# Altium schematic symbol library UWRT Schematic Library.SchLib: 510 symbols (part 3 of 5)
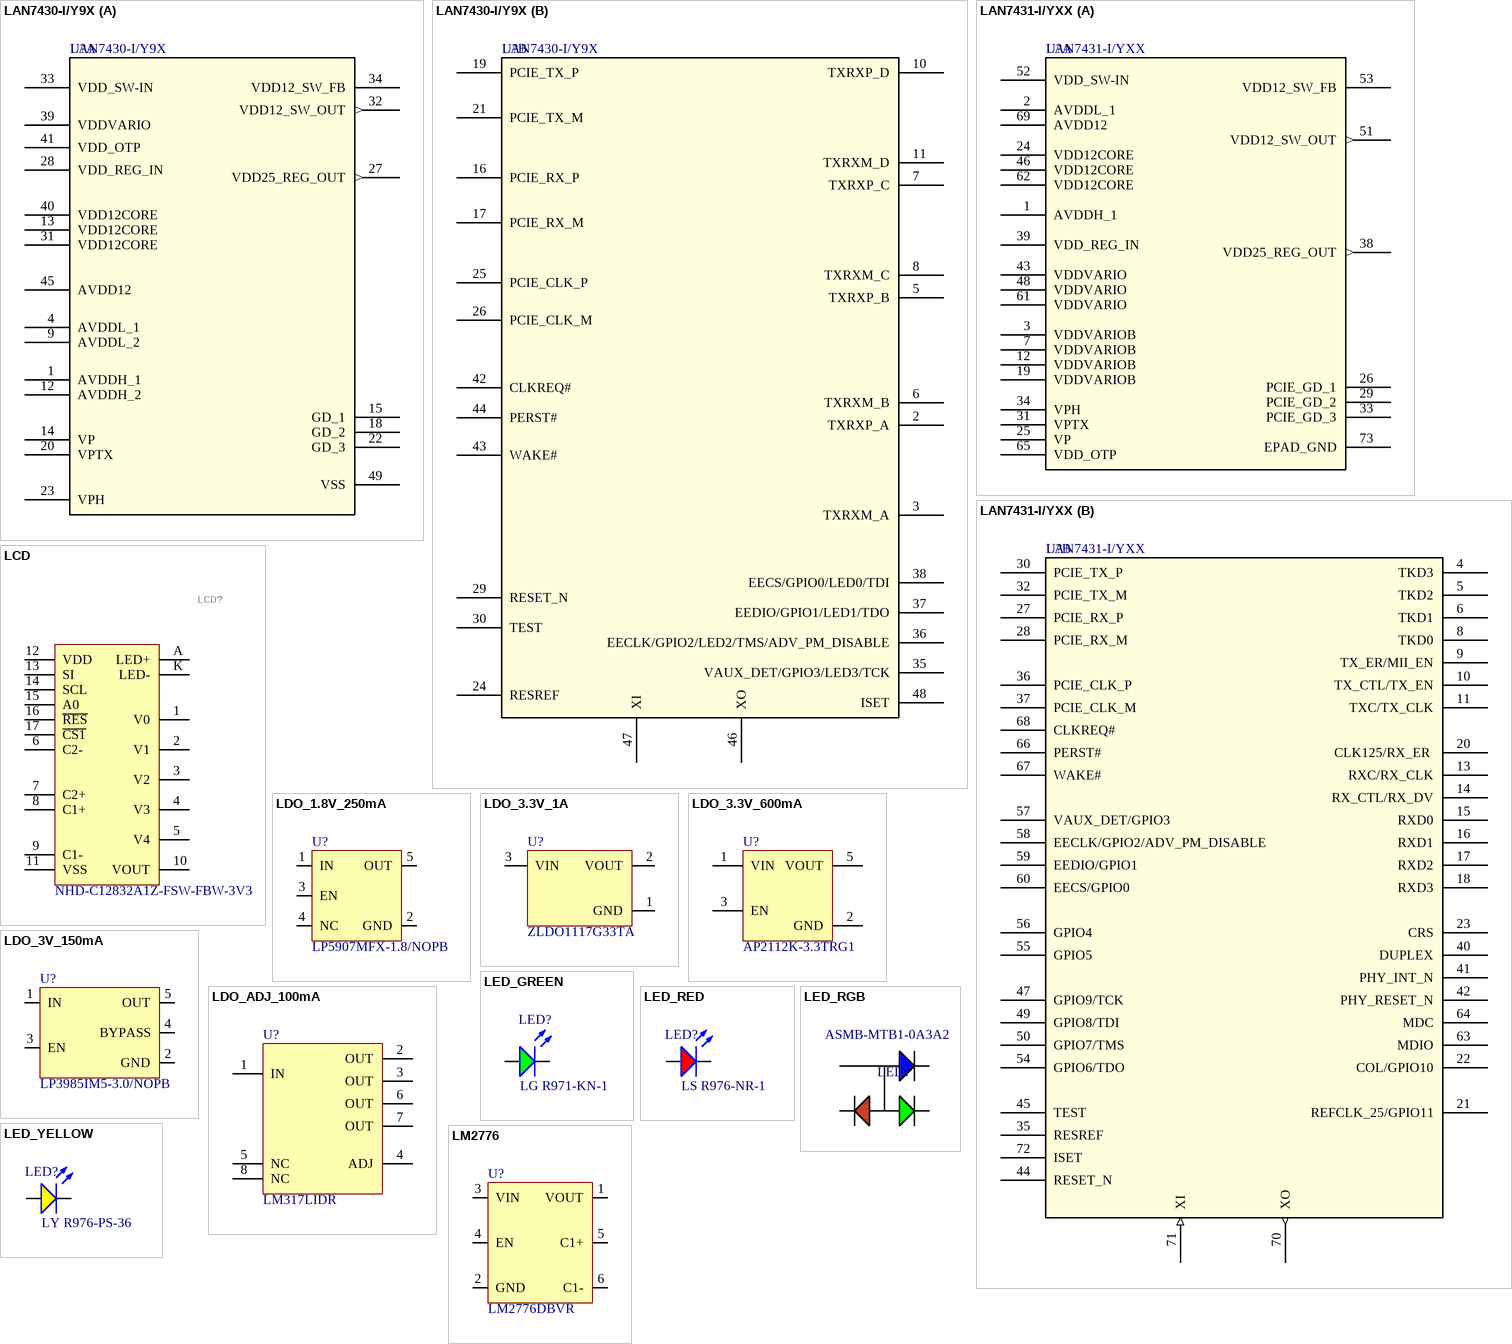
[diagram p19: symbols LAN7430-I/Y9X to LM2776]

## LDO_3.3V_1A
designator U?  Manufacturer Part Number 1: ZLDO1117G33TA
IC REG LINEAR 3.3V 1A SOT223; Manufacturer 1: Diodes Incorperated; Input Voltage (Max): 18V; Voltage Dropout (Max): 1.3V@1A; Package/Footprint: SOT-224; Supplier 1: Digi-Key; Supplier Part Number 1: ZLDO1117G33DICT-ND; Output Voltage (Fixed): 3.3V; Output Current: 1A; Operating Temperature: -40°C - 125°C; Mounting Type: Surface Mount
pins: 1 GND, 2 VOUT, 3 VIN

## LDO_3.3V_600mA
designator U?  Manufacturer Part Number 1: AP2112K-3.3TRG1
IC REG LINEAR 3.3V 600MA SOT25; Manufacturer 1: Diodes Incorporated; Input Voltage (Max): 6V; Voltage Dropout (Max): 0.4V; Package/Footprint: SOT-25; Supplier 1: Digi-Key; Supplier Part Number 1: AP2112K-3.3TRG1DICT-ND; Output Voltage (Fixed): 3.3V; Output Current: 600mA; Operating Temperature: -40°C - 85°C; LCSC Part #: C51118; Mounting Type: SMD
footprint SOT95P285X140-5N (AP2112K-3.3TRG1 LDO)
pins: 1 VIN, 2 GND, 3 EN, 5 VOUT

## LDO_3V_150mA
designator U?  Manufacturer Part Number 1: LP3985IM5-3.0/NOPB
IC REG LINEAR 3V 150MA SOT23-5; Manufacturer 1: Texas Instruments; Current Output: 150mA; Supplier Part Number 1: LP3985IM5-3.0/NOPBTR-ND; Supplier 1: Digi-Key
footprint SOT23-5
pins: 1 IN, 2 GND, 3 EN, 4 BYPASS, 5 OUT

## LDO_ADJ_100mA
designator U?  Manufacturer Part Number 1: LM317LIDR
IC REG LIN POS ADJ 100MA 8SOIC; Manufacturer 1: Texas Instruments; PSRR: 80dB ~ 65dB (120Hz); Voltage - Input (Max): 38V; Voltage - Output (Min/Fixed): 1.2V; Voltage - Output (Max): 32V; Current - Output: 100mA; Operating Temperature: -40C = 125C; Mounting Type: Surface Mount; Supplier 1: Digi-Key; Supplier Part Number 1: 296-20678-1-ND
footprint LM317LIDR (SOIC-8 LDO)
pins: 1 IN (power) "Unregulated input supply", 2 OUT (power) "Regulator output. A 1.0uF or larger capacitor of any type is required for stability.", 3 OUT (power) "Regulator output. A 1.0uF or larger capacitor of any type is required for stability.", 4 ADJ (power) "Regulator output. A 1.0uF or larger capacitor of any type is required for stability.", 5 NC (power) "Unregulated input supply", 6 OUT (power) "Regulator output. A 1.0uF or larger capacitor of any type is required for stability.", 7 OUT (power) "Regulator output. A 1.0uF or larger capacitor of any type is required for stability.", 8 NC (power) "Unregulated input supply"

## LED_GREEN
designator LED?  Manufacturer Part Number 1: LG R971-KN-1
LED GREEN DIFFUSED 0805 SMD; Manufacturer 1: OSRAM; Forward Voltage Drop: 2.2V; Package/Footprint: 0805; Supplier Part Number 1: 475-1410-1-ND; Supplier 1: Digi-Key; Mounting Type: SMD
footprint LED_0805_GREEN (SMD, 2-Leads, Body 2x1.25mm)
pins: 1 A, 2 K

## LED_RED
designator LED?  Manufacturer Part Number 1: LS R976-NR-1
LED RED DIFFUSED 0805 SMD; Manufacturer 1: OSRAM; Package/Footprint: 0805; Forward Voltage Drop: 2V; Supplier Part Number 1: 475-1278-1-ND; Supplier 1: Digi-Key; Mounting Type: SMD
footprint LED_0805_RED (SMD, 2-Leads, Body 2x1.25mm)
pins: 1 A, 2 K

## LED_RGB
designator LED?  Manufacturer Part Number 1: ASMB-MTB1-0A3A2
LED RGB DIFFUSED 4PLCC SMD; Manufacturer 1: Broadcom; Color: Blue,Green,Red; Lens Color: White; Viewing Angle: 115°; Lens Style: Round; Luminous Intensity: 350mcd; Dominant Wavelength: 470nm; Forward Voltage: 3.1V; Test Current: 20mA; Package/Footprint: 4-PLCC; Supplier 1: Digi-Key; Mounting Type: SMD; Number of Pins: 4; Lens Transparency: Diffused; Supplier Part Number 1: 516-3280-1-ND
footprint LED_RGB
pins: 1 CATHODE (RED), 2 CATHODE (GREEN), 3 CATHODE (BLUE), 4 COMMON ANODE

## LED_YELLOW
designator LED?  Manufacturer Part Number 1: LY R976-PS-36
LED YELLOW DIFFUSED 0805 SMD; Manufacturer 1: OSRAM; Forward Voltage Drop: 2.2V; Package: 0805 (2012 Metric); Supplier Part Number 1: 475-2560-1-ND; Supplier 1: Digi-Key
footprint LED_0805_YELLOW (SMD, 2-Leads, Body 2x1.25mm)
pins: 1 A, 2 K

## LM2776
designator U?  Manufacturer Part Number 1: LM2776DBVR
IC REG CHARGE PUMP INV SOT23; Manufacturer 1: Texas Instruments; Supplier Part Number 1: 296-43957-1-ND; Supplier 1: Digi-Key
footprint SOT23-6 (SOT23, 6-Leads, Body 3.05x1.75mm, Pitch 0.95mm, IPC Medium Density)
pins: 1 VOUT, 2 GND, 3 VIN, 4 EN, 5 C1+, 6 C1-

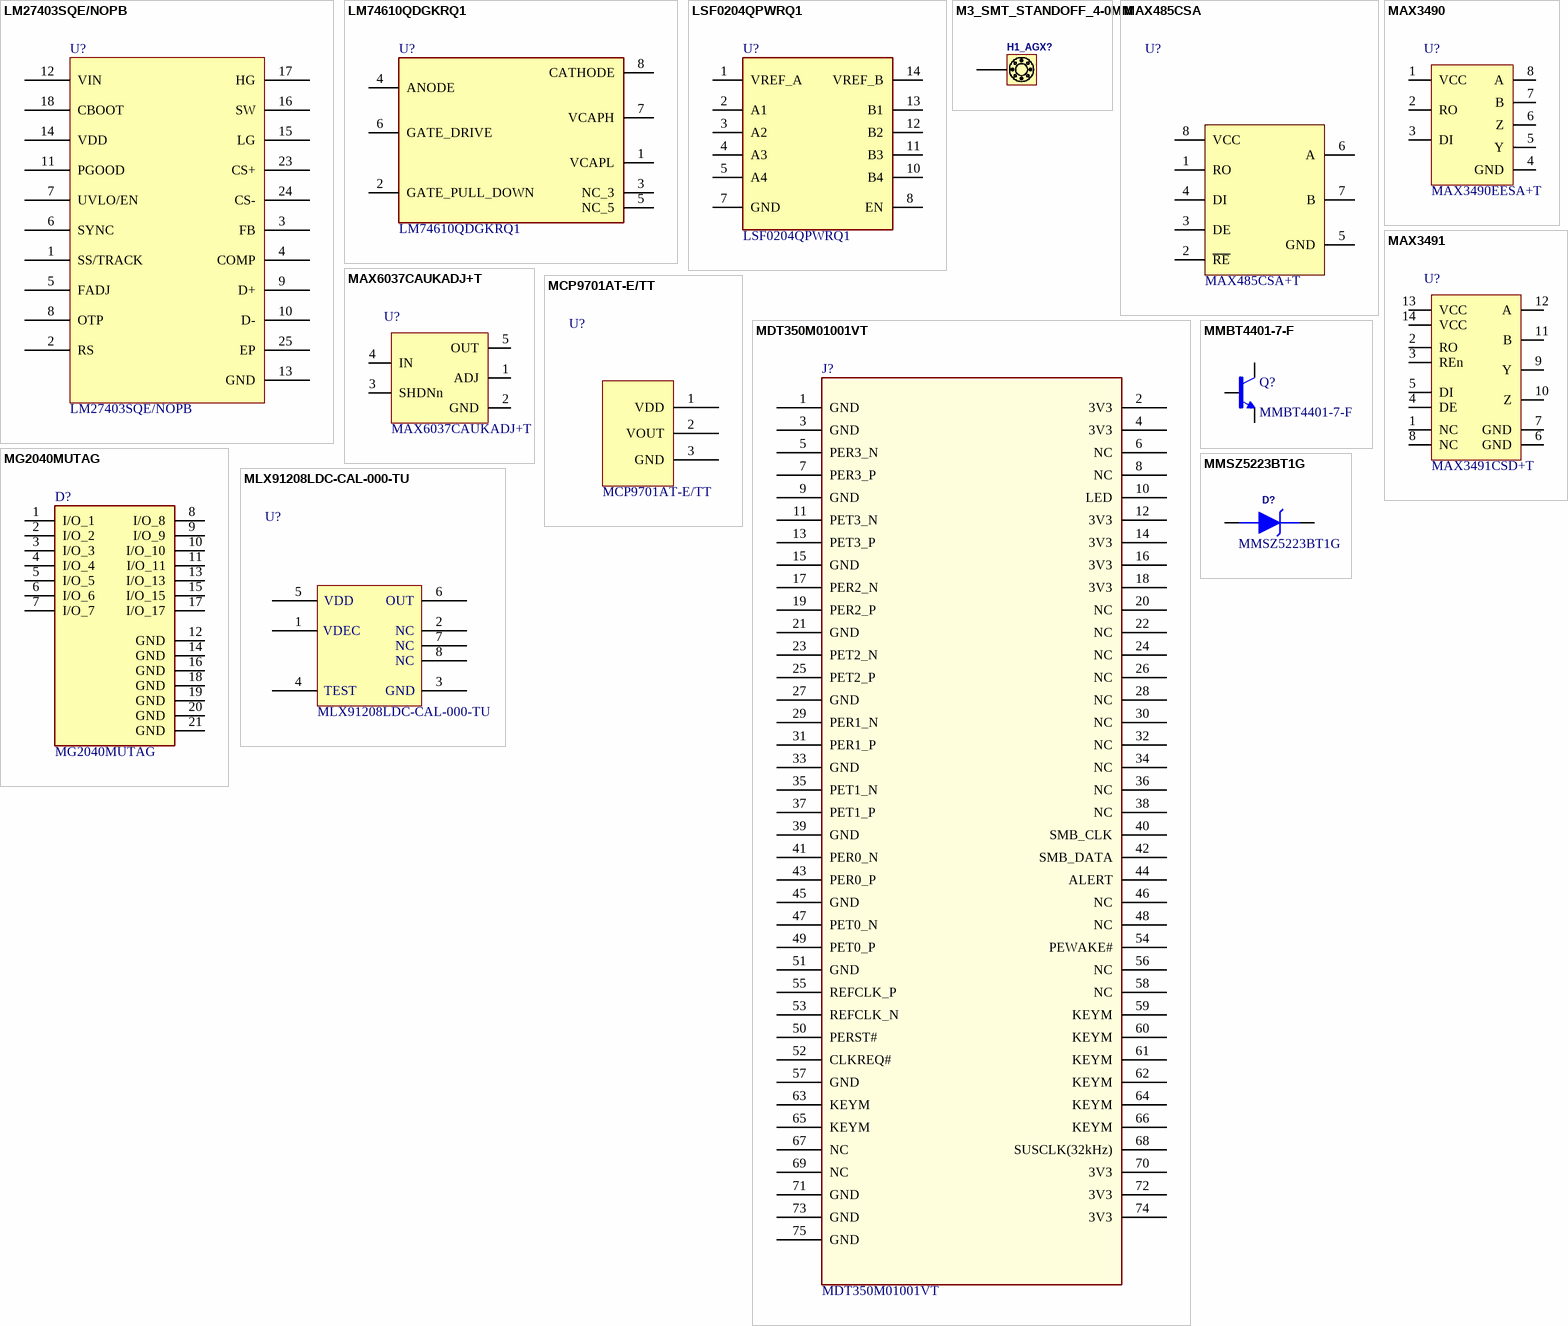
[diagram p8: symbols LM27403SQE/NOPB to MMSZ5223BT1G]

## LM27403SQE/NOPB
designator U?  Manufacturer Part Number 1: LM27403SQE/NOPB
IC REG CTRLR BUCK 24WQFN; Manufacturer 1: Texas Instruments; Supply Voltage: 3V - 20V; Switching Frequency: 200kHz - 1.2MHz; Max Duty Cycle: 93%; Supplier Part Number 1: 296-37066-1-ND; Supplier 1: Digi-Key; Package: 24-WQFN Exposed Pad
footprint QFN50P400X400X80-25N
pins: 1 SS/TRACK, 2 RS, 3 FB, 4 COMP, 5 FADJ, 6 SYNC, 7 UVLO/EN, 8 OTP, 9 D+, 10 D-, 11 PGOOD, 12 VIN, 13 GND, 14 VDD, 15 LG, 16 SW, 17 HG, 18 CBOOT, 23 CS+, 24 CS-, 25 EP

## LM74610QDGKRQ1
designator U?  Manufacturer Part Number 1: LM74610QDGKRQ1
IC SMART DIODE CTLR 8VSSOP; Manufacturer 1: Texas Instruments; Supply Voltage (Max): 42V; Package/Footprint: 8-TSSOP; Supplier 1: Digi-Key; Supplier Part Number 1: 296-43067-1-ND; LCSC Part #: C202259; Mounting Type: SMD
footprint SOP65P490X110-8N
pins: 1 VCAPL, 2 GATE_PULL_DOWN, 3 NC_3, 4 ANODE, 5 NC_5, 6 GATE_DRIVE, 7 VCAPH, 8 CATHODE

## LSF0204QPWRQ1
designator U?  Manufacturer Part Number 1: LSF0204QPWRQ1
4-BITS MULTI-VOLTAGE LEVEL TRANS; Manufacturer 1: Texas Instruments; Channel Type: Bidirectional; Channels per Circuit: 4; Output Type: Open Drain, Push Pull; Data Rate: 100MBd; Voltage - VCCA: 0.8V - 4.5V; Voltage - VCCB: 1.8V - 5.5V; Supplier 1: Digi-Key; Supplier Part Number 1: 296-51425-1-ND; Package: 14-TSSOP
footprint SOP65P640X120-14N
pins: 1 VREF_A, 2 A1, 3 A2, 4 A3, 5 A4, 7 GND, 8 EN, 10 B4, 11 B3, 12 B2, 13 B1, 14 VREF_B

## M3_SMT_STANDOFF_4-0MM
designator H1_AGX?
ROUND STANDOFF M3X0.5 STEEL 4MM; Manufacturer 1: Würth Elektronik; Manufacturer Part Number 1: 9774040360R; Supplier 1: Digi-Key; Supplier Part Number 1: 732-5271-1-ND
footprint M3_SMT_4-0MM
pins: 0

## MAX485CSA
designator U?  Manufacturer Part Number 1: MAX485CSA+T
IC RS485 TRANSCEIVER HALF 1/1 8SOIC; Manufacturer 1: Maxim Integrated; Protocol: RS422, RS485; Data Rate: 2.5Mbps; Supply Voltage: 4.75V - 5.25V; Package/Footprint: 8-SOIC; Supplier 1: Digi-Key; Supplier Part Number 1: MAX485CSA+TCT-ND; Mounting Type: SMD; LCSC Part #: C9945
footprint SOIC127P600X175-8N
pins: 1 RO, 2 ~{RE}, 3 DE, 4 DI, 5 GND (power), 6 A, 7 B, 8 VCC (power)

## MAX3490
designator U?  Manufacturer Part Number 1: MAX3490EESA+T
IC RS485 TRANSCEIVER FULL 8SOIC; Manufacturer 1: Maxim; Supplier 1: Digi-Key; Supplier Part Number 1: MAX3490EESA+CT-ND
footprint 8-SOIC_M (SOIC, 8-Leads, Body 5x4mm, Pitch 1.27mm, IPC Low Density)
pins: 1 VCC, 2 RO, 3 DI, 4 GND, 5 Y, 6 Z, 7 B, 8 A

## MAX3491
designator U?  Manufacturer Part Number 1: MAX3491CSD+T
IC RS485 TRANSCEIVER FULL 1/1 14SOIC; Manufacturer 1: Maxim; Package/Footprint: 14-SOIC; Supplier 1: Digi-Key; Mounting Type: SMD; Supplier Part Number 1: MAX3491CSD+CT-ND
footprint MAX3491CSD+T
pins: 1 NC, 2 RO "Receiver output", 3 REn "Receiver output enable", 4 DE "Driver input enable", 5 DI "Driver input", 6 GND, 7 GND, 8 NC, 9 Y "Noninverting driver output", 10 Z "Inverting driver output", 11 B "Inverting receiver input", 12 A "Non-inverting receiver input", 13 VCC, 14 VCC

## MAX6037CAUKADJ+T
designator U?  Manufacturer Part Number 1: MAX6037CAUKADJ+T
IC VREF SERIES 5V 0.5% SOT23-5; Manufacturer 1: Maxim; Package/Footprint: SOT-23-5; Max Input Voltage: 6V; Max Output Current: 5mA; Reference Type: Series,Adjustable; Output Type: Adjustable; Min Output Voltage: 1.184V; Operating Supply Current: 250uA; Supplier 1: Digi-Key; Mounting Type: SMD; Number of Pins: 5; Output Voltage: 5V; Max Output Voltage: 5V; Package Quantity: 2500; Quiescent Current: 250uA; Output Current: 5mA; Reference Voltage: 5V; Supplier Part Number 1: MAX6037CAUKADJ+TCT-ND
footprint SOT23-5
pins: 1 ADJ, 2 GND, 3 SHDNn, 4 IN, 5 OUT

## MCP9701AT-E/TT
designator U?  Manufacturer Part Number 1: MCP9701AT-E/TT
IC THERMISTOR; Manufacturer 1: Microchip Technology; Supplier Part Number 1: MCP9701AT-E/TTTR-ND; Supplier 1: Digi-Key
footprint MCP9701AT-E/TT
pins: 1 VDD, 2 VOUT, 3 GND

## MDT350M01001VT
designator J?  Manufacturer Part Number 1: MDT350M01001VT
Card Edge Connector, 67 Contact(s), 2 Row(s), Female, Straight, Surface Mount Terminal; Manufacturer 1: Amphenol; Supplier 1: Digi-Key; Supplier Part Number 1: 609-6591TR-ND
pins: 1 GND, 2 3V3, 3 GND, 4 3V3, 5 PER3_N, 6 NC, 7 PER3_P, 8 NC, 9 GND, 10 LED, 11 PET3_N, 12 3V3, 13 PET3_P, 14 3V3, 15 GND, 16 3V3, 17 PER2_N, 18 3V3, 19 PER2_P, 20 NC, 21 GND, 22 NC, 23 PET2_N, 24 NC, 25 PET2_P, 26 NC, 27 GND, 28 NC, 29 PER1_N, 30 NC, 31 PER1_P, 32 NC, 33 GND, 34 NC, 35 PET1_N, 36 NC, 37 PET1_P, 38 NC, 39 GND, 40 SMB_CLK, 41 PER0_N, 42 SMB_DATA, 43 PER0_P, 44 ALERT, 45 GND, 46 NC, 47 PET0_N, 48 NC, 49 PET0_P, 50 PERST#, 51 GND, 52 CLKREQ#, 53 REFCLK_N, 54 PEWAKE#, 55 REFCLK_P, 56 NC, 57 GND, 58 NC, 59 KEYM, 60 KEYM, 61 KEYM, 62 KEYM, 63 KEYM, 64 KEYM, 65 KEYM, 66 KEYM, 67 NC, 68 SUSCLK(32kHz), 69 NC, 70 3V3, 71 GND, 72 3V3, 73 GND, 74 3V3, 75 GND

## MG2040MUTAG
designator D?  Manufacturer Part Number 1: MG2040MUTAG
TVS DIODE 5VWM 10VC 18UDFN; Manufacturer 1: ON Semiconductor; Supplier 1: Digi-Key; Supplier Part Number 1: MG2040MUTAGCT-ND; Package: 18-UFDFN
footprint DIO_MG2040MUTAG
pins: 1 I/O_1, 2 I/O_2, 3 I/O_3, 4 I/O_4, 5 I/O_5, 6 I/O_6, 7 I/O_7, 8 I/O_8, 9 I/O_9, 10 I/O_10, 11 I/O_11, 12 GND (power), 13 I/O_13, 14 GND (power), 15 I/O_15, 16 GND (power), 17 I/O_17, 18 GND (power), 19 GND (power), 20 GND (power), 21 GND (power)

## MLX91208LDC-CAL-000-TU
designator U?  Manufacturer Part Number 1: MLX91208LDC-CAL-000-TU
SENSOR CURRENT HALL 10MT AC/DC; Manufacturer 1: Melexis Technologies NV; Package/Footprint: 8-SOIC; Linearity: 0.75%; Accuracy: 0.1%; Frequency: 200kHz; Supplier 1: Digi-Key; Mounting Type: SMD; Supplier Part Number 1: MLX91208LDC-CAL-000-TU-ND
footprint 8-SOIC_M (SOIC, 8-Leads, Body 5x4mm, Pitch 1.27mm, IPC Low Density)
pins: 1, 2, 3, 4, 5, 6, 7, 8
text: VDD; OUT; VDEC; NC; TEST; GND

## MMBT4401-7-F
designator Q?  Manufacturer Part Number 1: MMBT4401-7-F
TRANS NPN 40V 0.6A SMD SOT23-3; Manufacturer 1: Diodes Incorporated; Current - Collector Cutoff (Max): 100nA; Vce Saturation (Max) @ Ib, Ic: 750mV @ 50mA, 500mA; Frequency - Transition: 250MHz; Current - Collector (Ic) (Max): 600mA; Supplier 1: Digi-Key; Supplier Part Number 1: MMBT4401-FDICT-ND
footprint MMBT4401-7-F
pins: 1, 2, 3

## MMSZ5223BT1G
designator D?  Manufacturer Part Number 1: MMSZ5223BT1G
DIODE ZENER 2.7V 500MW SOD123; Manufacturer 1: On Semiconductor; Forward Voltage: 900mV @ 10mA; Voltage - Zener: 2.7V; Power - Max: 500mW; Package: SOD-123
footprint ON SEMI SOD-123
pins: 1 C, 2 A

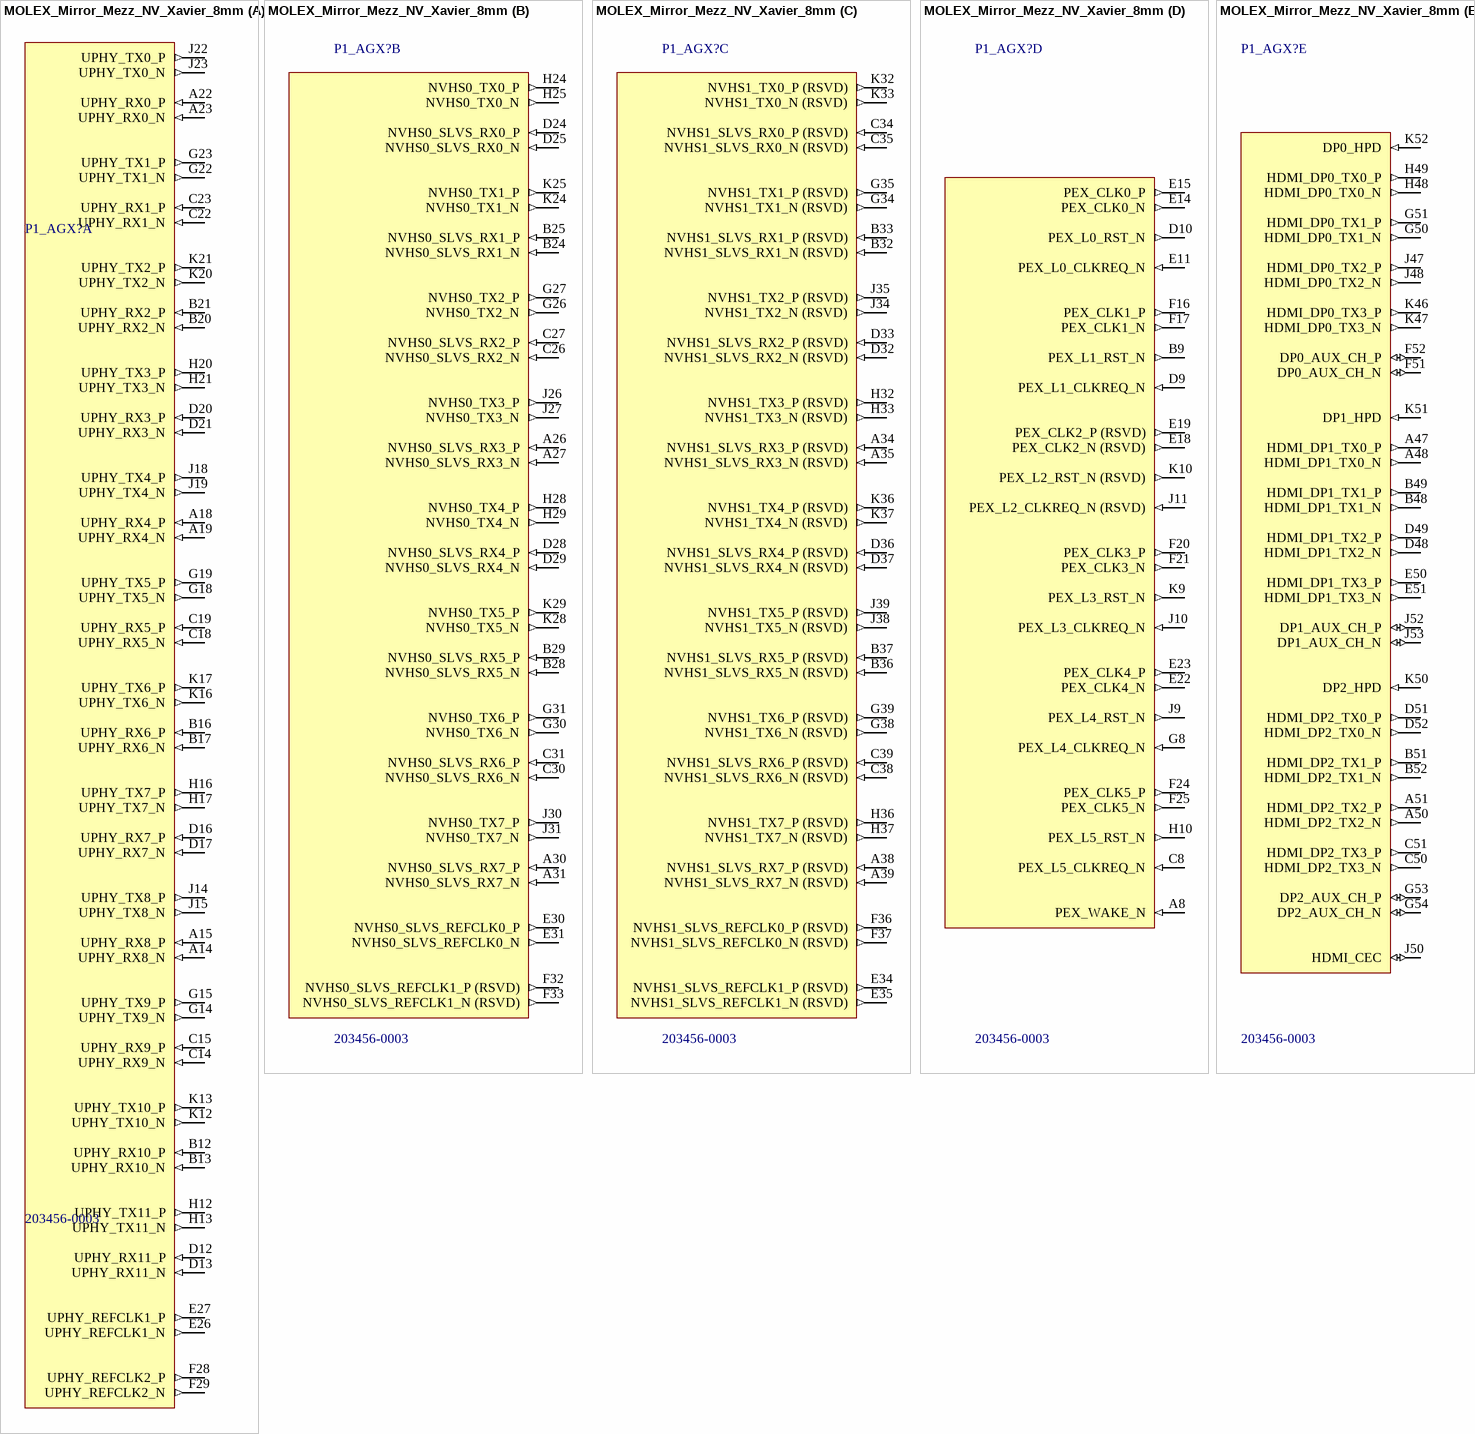
[diagram p9: symbol MOLEX_Mirror_Mezz_NV_Xavier_8mm]

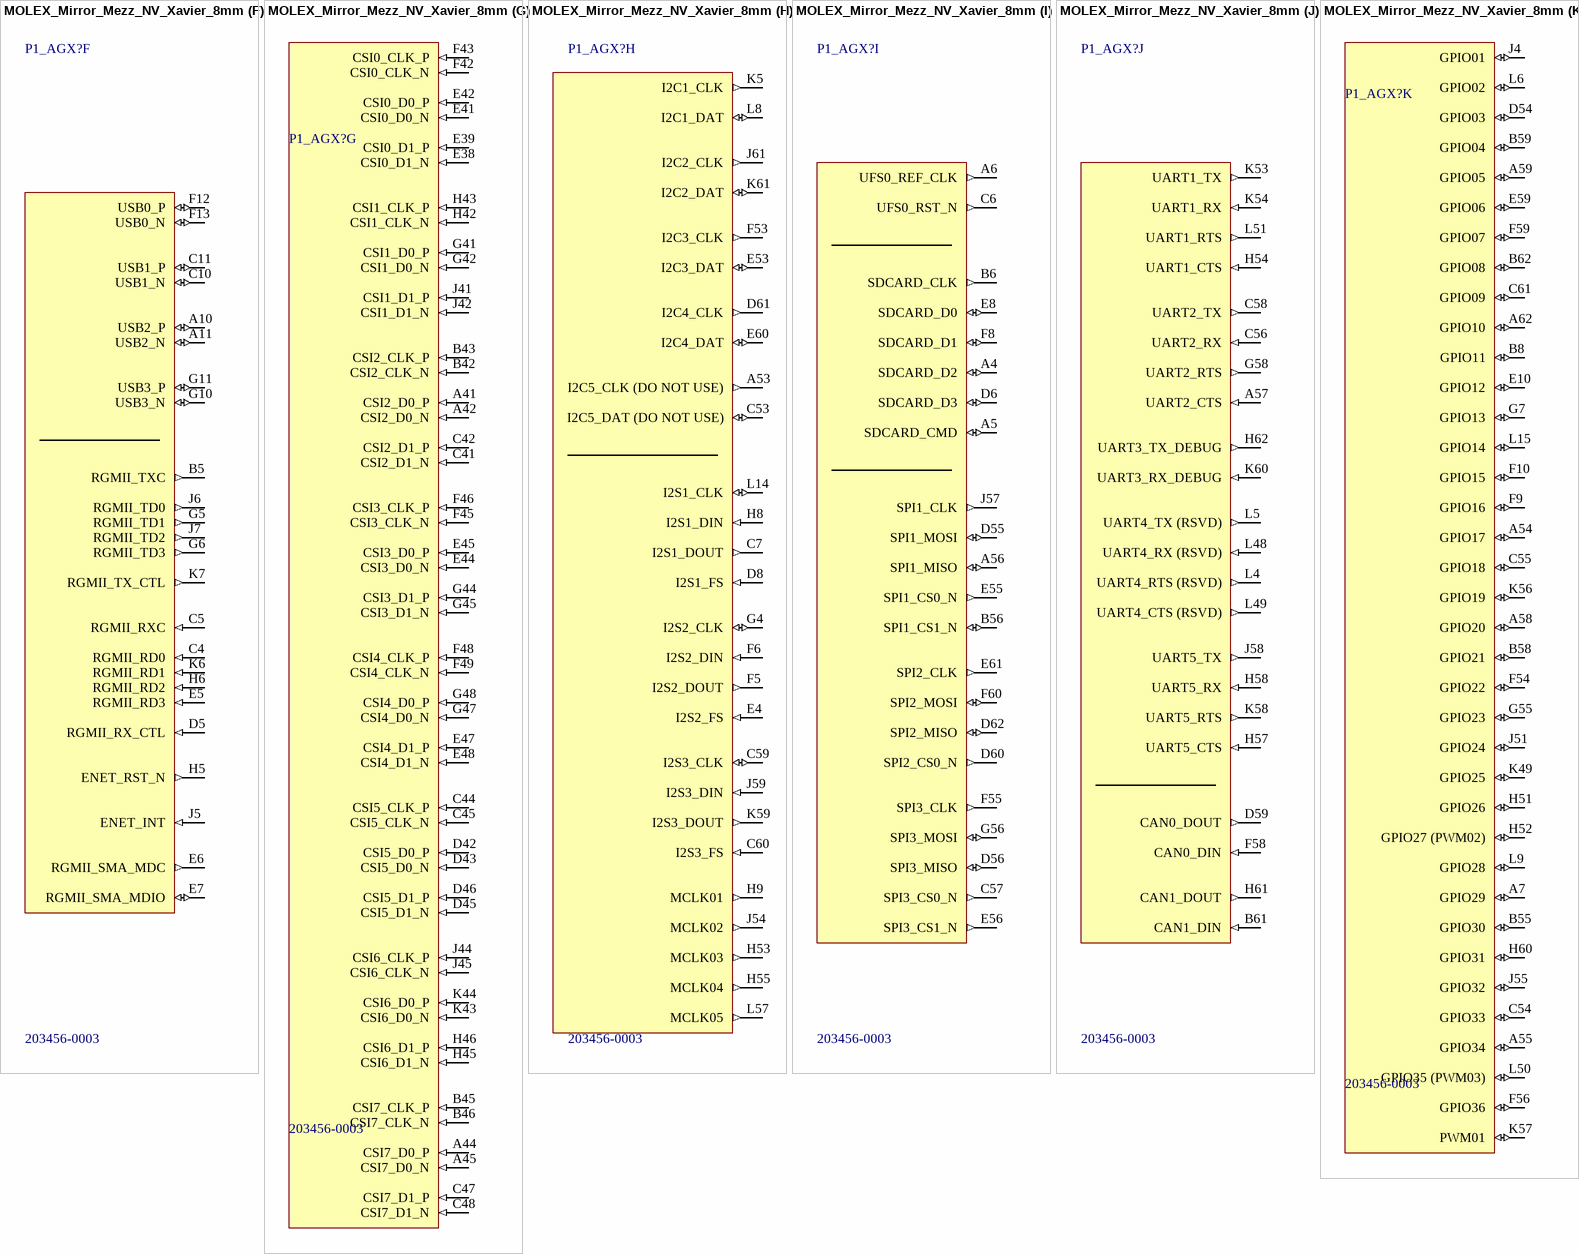
[diagram p10: symbol MOLEX_Mirror_Mezz_NV_Xavier_8mm]

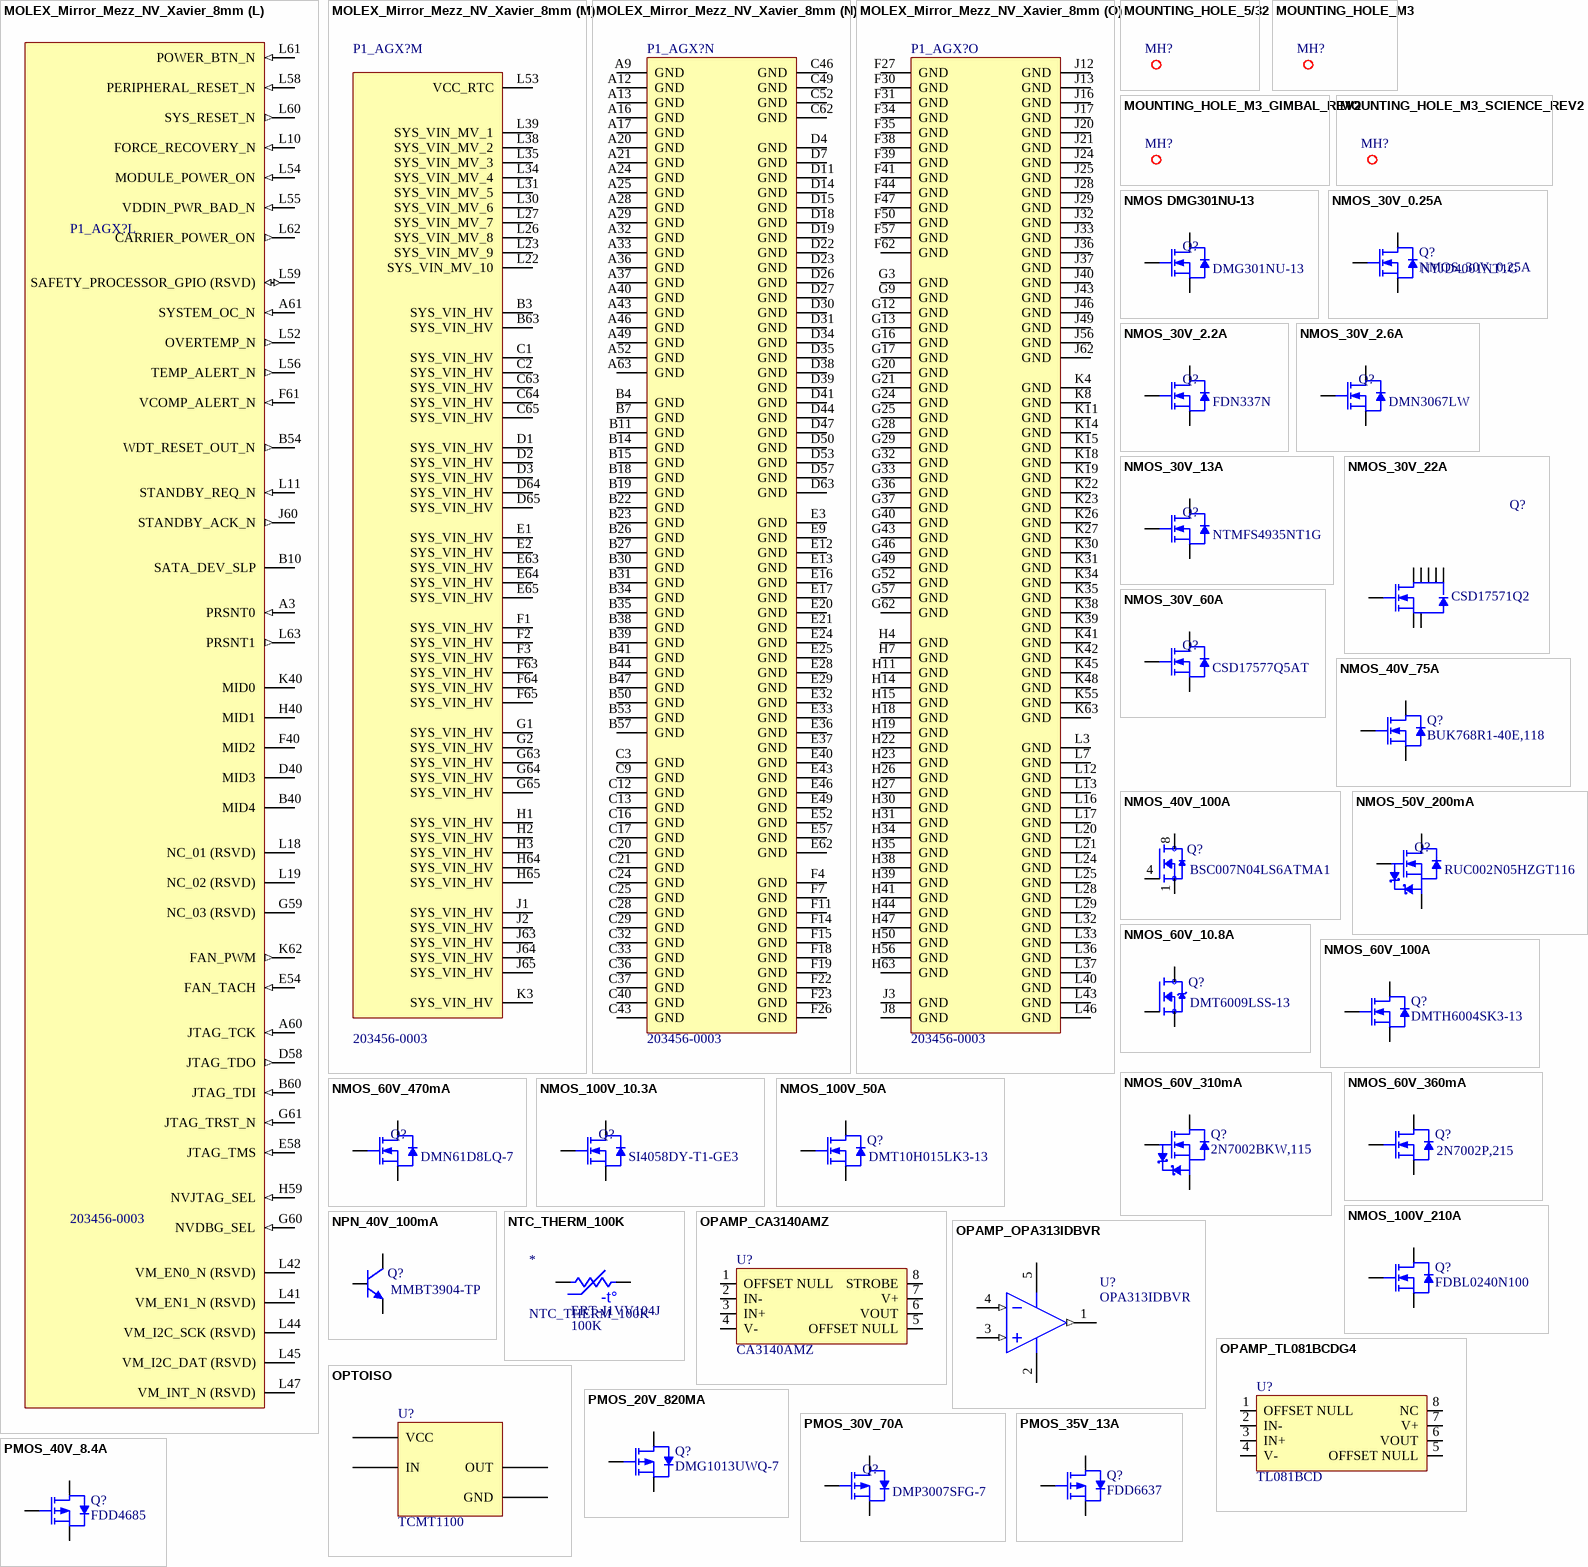
[diagram p11: symbols MOLEX_Mirror_Mezz_NV_Xavier_8mm to PMOS_40V_8.4A]

## MOLEX_Mirror_Mezz_NV_Xavier_8mm
designator P1_AGX?  Manufacturer Part Number 1: 203456-0003
CONN SELF-MATE 699POS SMD GOLD; Manufacturer 1: Molex; Supplier 1: Digi-Key; Supplier Part Number 1: WM25528CT-ND
footprint 203456-0003
part A pins: A14 UPHY_RX8_N (in) "UPHY: Receive Lane 8", A15 UPHY_RX8_P (in) "UPHY: Receive Lane 8", A18 UPHY_RX4_P (in) "UPHY: Receive Lane 4", A19 UPHY_RX4_N (in) "UPHY: Receive Lane 4", A22 UPHY_RX0_P (in) "UPHY: Receive Lane 0", A23 UPHY_RX0_N (in) "UPHY: Receive Lane 0", B12 UPHY_RX10_P (in) "UPHY: Receive Lane 10", B13 UPHY_RX10_N (in) "UPHY: Receive Lane 10", B16 UPHY_RX6_P (in) "UPHY: Receive Lane 6", B17 UPHY_RX6_N (in) "UPHY: Receive Lane 6", B20 UPHY_RX2_N (in) "UPHY: Receive Lane 2", B21 UPHY_RX2_P (in) "UPHY: Receive Lane 2", C14 UPHY_RX9_N (in) "UPHY: Receive Lane 9", C15 UPHY_RX9_P (in) "UPHY: Receive Lane 9", C18 UPHY_RX5_N (in) "UPHY: Receive Lane 5", C19 UPHY_RX5_P (in) "UPHY: Receive Lane 5", C22 UPHY_RX1_N (in) "UPHY: Receive Lane 1", C23 UPHY_RX1_P (in) "UPHY: Receive Lane 1", D12 UPHY_RX11_P (in) "UPHY: Receive Lane 11", D13 UPHY_RX11_N (in) "UPHY: Receive Lane 11", D16 UPHY_RX7_P (in) "UPHY: Receive Lane 7", D17 UPHY_RX7_N (in) "UPHY: Receive Lane 7", D20 UPHY_RX3_P (in) "UPHY: Receive Lane 3", D21 UPHY_RX3_N (in) "UPHY: Receive Lane 3", E26 UPHY_REFCLK1_N (out) "UPHY: Reference Clock 1", E27 UPHY_REFCLK1_P (out) "UPHY: Reference Clock 1", F28 UPHY_REFCLK2_P (out) "UPHY: Reference Clock 2", F29 UPHY_REFCLK2_N (out) "UPHY: Reference Clock 2", G14 UPHY_TX9_N (out) "UPHY: Transmit Lane 9", G15 UPHY_TX9_P (out) "UPHY: Transmit Lane 9", G18 UPHY_TX5_N (out) "UPHY: Transmit Lane 5", G19 UPHY_TX5_P (out) "UPHY: Transmit Lane 5", G22 UPHY_TX1_N (out) "UPHY: Transmit Lane 1", G23 UPHY_TX1_P (out) "UPHY: Transmit Lane 1", H12 UPHY_TX11_P (out) "UPHY: Transmit Lane 11", H13 UPHY_TX11_N (out) "UPHY: Transmit Lane 11", H16 UPHY_TX7_P (out) "UPHY: Transmit Lane 7", H17 UPHY_TX7_N (out) "UPHY: Transmit Lane 7", H20 UPHY_TX3_P (out) "UPHY: Transmit Lane 3", H21 UPHY_TX3_N (out) "UPHY: Transmit Lane 3", J14 UPHY_TX8_P (out) "UPHY: Transmit Lane 8", J15 UPHY_TX8_N (out) "UPHY: Transmit Lane 8", J18 UPHY_TX4_P (out) "UPHY: Transmit Lane 4", J19 UPHY_TX4_N (out) "UPHY: Transmit Lane 4", J22 UPHY_TX0_P (out) "UPHY: Transmit Lane 0", J23 UPHY_TX0_N (out) "UPHY: Transmit Lane 0", K12 UPHY_TX10_N (out) "UPHY: Transmit Lane 10", K13 UPHY_TX10_P (out) "UPHY: Transmit Lane 10", K16 UPHY_TX6_N (out) "UPHY: Transmit Lane 6", K17 UPHY_TX6_P (out) "UPHY: Transmit Lane 6", K20 UPHY_TX2_N (out) "UPHY: Transmit Lane 2", K21 UPHY_TX2_P (out) "UPHY: Transmit Lane 2"
part B pins: A26 NVHS0_SLVS_RX3_P (in) "PCIe/SLVS0: Receive Lane 3", A27 NVHS0_SLVS_RX3_N (in) "PCIe/SLVS0: Receive Lane 3", A30 NVHS0_SLVS_RX7_P (in) "PCIe/SLVS0: Receive Lane 7", A31 NVHS0_SLVS_RX7_N (in) "PCIe/SLVS0: Receive Lane 7", B24 NVHS0_SLVS_RX1_N (in) "PCIe/SLVS0: Receive Lane 1", B25 NVHS0_SLVS_RX1_P (in) "PCIe/SLVS0: Receive Lane 1", B28 NVHS0_SLVS_RX5_N (in) "PCIe/SLVS0: Receive Lane 5", B29 NVHS0_SLVS_RX5_P (in) "PCIe/SLVS0: Receive Lane 5", C26 NVHS0_SLVS_RX2_N (in) "PCIe/SLVS0: Receive Lane 2", C27 NVHS0_SLVS_RX2_P (in) "PCIe/SLVS0: Receive Lane 2", C30 NVHS0_SLVS_RX6_N (in) "PCIe/SLVS0: Receive Lane 6", C31 NVHS0_SLVS_RX6_P (in) "PCIe/SLVS0: Receive Lane 6", D24 NVHS0_SLVS_RX0_P (in) "PCIe/SLVS0: Receive Lane 0", D25 NVHS0_SLVS_RX0_N (in) "PCIe/SLVS0: Receive Lane 0", D28 NVHS0_SLVS_RX4_P (in) "PCIe/SLVS0: Receive Lane 4", D29 NVHS0_SLVS_RX4_N (in) "PCIe/SLVS0: Receive Lane 4", E30 NVHS0_SLVS_REFCLK0_P (out) "PCIe/SLVS0: Reference Clock 0", E31 NVHS0_SLVS_REFCLK0_N (out) "PCIe/SLVS0: Reference Clock 0", F32 NVHS0_SLVS_REFCLK1_P (RSVD) (out) "PCIe/SLVS0: Reference Clock 1", F33 NVHS0_SLVS_REFCLK1_N (RSVD) (out) "PCIe/SLVS0: Reference Clock 1", G26 NVHS0_TX2_N (out) "PCIe/SLVS0: Transmit Lane 2", G27 NVHS0_TX2_P (out) "PCIe/SLVS0: Transmit Lane 2", G30 NVHS0_TX6_N (out) "PCIe/SLVS0: Transmit Lane 6", G31 NVHS0_TX6_P (out) "PCIe/SLVS0: Transmit Lane 6", H24 NVHS0_TX0_P (out) "PCIe/SLVS0: Transmit Lane 0", H25 NVHS0_TX0_N (out) "PCIe/SLVS0: Transmit Lane 0", H28 NVHS0_TX4_P (out) "PCIe/SLVS0: Transmit Lane 4", H29 NVHS0_TX4_N (out) "PCIe/SLVS0: Transmit Lane 4", J26 NVHS0_TX3_P (out) "PCIe/SLVS0: Transmit Lane 3", J27 NVHS0_TX3_N (out) "PCIe/SLVS0: Transmit Lane 3", J30 NVHS0_TX7_P (out) "PCIe/SLVS0: Transmit Lane 7", J31 NVHS0_TX7_N (out) "PCIe/SLVS0: Transmit Lane 7", K24 NVHS0_TX1_N (out) "PCIe/SLVS0: Transmit Lane 1", K25 NVHS0_TX1_P (out) "PCIe/SLVS0: Transmit Lane 1", K28 NVHS0_TX5_N (out) "PCIe/SLVS0: Transmit Lane 5", K29 NVHS0_TX5_P (out) "PCIe/SLVS0: Transmit Lane 5"
part C pins: A34 NVHS1_SLVS_RX3_P (RSVD) (in) "SLVS1: Receive Lane 3", A35 NVHS1_SLVS_RX3_N (RSVD) (in) "SLVS1: Receive Lane 3", A38 NVHS1_SLVS_RX7_P (RSVD) (in) "SLVS1: Receive Lane 7", A39 NVHS1_SLVS_RX7_N (RSVD) (in) "SLVS1: Receive Lane 7", B32 NVHS1_SLVS_RX1_N (RSVD) (in) "SLVS1: Receive Lane 1", B33 NVHS1_SLVS_RX1_P (RSVD) (in) "SLVS1: Receive Lane 1", B36 NVHS1_SLVS_RX5_N (RSVD) (in) "SLVS1: Receive Lane 5", B37 NVHS1_SLVS_RX5_P (RSVD) (in) "SLVS1: Receive Lane 5", C34 NVHS1_SLVS_RX0_P (RSVD) (in) "SLVS1: Receive Lane 0", C35 NVHS1_SLVS_RX0_N (RSVD) (in) "SLVS1: Receive Lane 0", C38 NVHS1_SLVS_RX6_N (RSVD) (in) "SLVS1: Receive Lane 6", C39 NVHS1_SLVS_RX6_P (RSVD) (in) "SLVS1: Receive Lane 6", D32 NVHS1_SLVS_RX2_N (RSVD) (in) "SLVS1: Receive Lane 2", D33 NVHS1_SLVS_RX2_P (RSVD) (in) "SLVS1: Receive Lane 2", D36 NVHS1_SLVS_RX4_P (RSVD) (in) "SLVS1: Receive Lane 4", D37 NVHS1_SLVS_RX4_N (RSVD) (in) "SLVS1: Receive Lane 4", E34 NVHS1_SLVS_REFCLK1_P (RSVD) (out) "PCIe/SLVS1: Reference Clock 1", E35 NVHS1_SLVS_REFCLK1_N (RSVD) (out) "PCIe/SLVS1: Reference Clock 1", F36 NVHS1_SLVS_REFCLK0_P (RSVD) (out) "PCIe/SLVS1: Reference Clock 0", F37 NVHS1_SLVS_REFCLK0_N (RSVD) (out) "PCIe/SLVS1: Reference Clock 0", G34 NVHS1_TX1_N (RSVD) (out) "SLVS1: Transmit Lane 1", G35 NVHS1_TX1_P (RSVD) (out) "SLVS1: Transmit Lane 1", G38 NVHS1_TX6_N (RSVD) (out) "SLVS1: Transmit Lane 6", G39 NVHS1_TX6_P (RSVD) (out) "SLVS1: Transmit Lane 6", H32 NVHS1_TX3_P (RSVD) (out) "SLVS1: Transmit Lane 3", H33 NVHS1_TX3_N (RSVD) (out) "SLVS1: Transmit Lane 3", H36 NVHS1_TX7_P (RSVD) (out) "SLVS1: Transmit Lane 7", H37 NVHS1_TX7_N (RSVD) (out) "SLVS1: Transmit Lane 7", J34 NVHS1_TX2_N (RSVD) (out) "SLVS1: Transmit Lane 2", J35 NVHS1_TX2_P (RSVD) (out) "SLVS1: Transmit Lane 2", J38 NVHS1_TX5_N (RSVD) (out) "SLVS1: Transmit Lane 5", J39 NVHS1_TX5_P (RSVD) (out) "SLVS1: Transmit Lane 5", K32 NVHS1_TX0_P (RSVD) (out) "SLVS1: Transmit Lane 0", K33 NVHS1_TX0_N (RSVD) (out) "SLVS1: Transmit Lane 0", K36 NVHS1_TX4_P (RSVD) (out) "SLVS1: Transmit Lane 4", K37 NVHS1_TX4_N (RSVD) (out) "SLVS1: Transmit Lane 4"
part D pins: A8 PEX_WAKE_N (in) "PCIe: PCIe Wake", B9 PEX_L1_RST_N (out) "PCIe: PCIe 1 Reset", C8 PEX_L5_CLKREQ_N (in) "PCIe: PCIe 5 Clock Request", D9 PEX_L1_CLKREQ_N (in) "PCIe: PCIe 1 Clock Request", D10 PEX_L0_RST_N (out) "PCIe: PCIe 0 Reset", E11 PEX_L0_CLKREQ_N (in) "PCIe: PCIe 0 Clock Request", E14 PEX_CLK0_N (out) "PCIe: PCIe 0 Reference Clock", E15 PEX_CLK0_P (out) "PCIe: PCIe 0 Reference Clock", E18 PEX_CLK2_N (RSVD) (out) "PCIe: PCIe 2 Reference Clock", E19 PEX_CLK2_P (RSVD) (out) "PCIe: PCIe 2 Reference Clock", E22 PEX_CLK4_N (out) "PCIe: PCIe 4 Reference Clock", E23 PEX_CLK4_P (out) "PCIe: PCIe 4 Reference Clock", F16 PEX_CLK1_P (out) "PCIe: PCIe 1 Reference Clock", F17 PEX_CLK1_N (out) "PCIe: PCIe 1 Reference Clock", F20 PEX_CLK3_P (out) "PCIe: PCIe 3 Reference Clock", F21 PEX_CLK3_N (out) "PCIe: PCIe 3 Reference Clock", F24 PEX_CLK5_P (out) "PCIe: PCIe 5 Reference Clock", F25 PEX_CLK5_N (out) "PCIe: PCIe 5 Reference Clock", G8 PEX_L4_CLKREQ_N (in) "PCIe: PCIe 4 Clock Request", H10 PEX_L5_RST_N (out) "PCIe: PCIe 5 Reset", J9 PEX_L4_RST_N (out) "PCIe: PCIe 4 Reset", J10 PEX_L3_CLKREQ_N (in) "PCIe: PCIe 3 Clock Request", J11 PEX_L2_CLKREQ_N (RSVD) (in) "PCIe: PCIe 2 Clock Request", K9 PEX_L3_RST_N (out) "PCIe: PCIe 3 Reset", K10 PEX_L2_RST_N (RSVD) (out) "PCIe: PCIe 2 Reset"
part E pins: A47 HDMI_DP1_TX0_P (out) "Display: DisplayPort 1 Lane 0 or HDMI 1 Lane 2", A48 HDMI_DP1_TX0_N (out) "Display: DisplayPort 1 Lane 0 or HDMI 1 Lane 2", A50 HDMI_DP2_TX2_N (out) "Display: DisplayPort 2 Lane 2 or HDMI 2 Lane 0", A51 HDMI_DP2_TX2_P (out) "Display: DisplayPort 2 Lane 2 or HDMI 2 Lane 0", B48 HDMI_DP1_TX1_N (out) "Display: DisplayPort 1 Lane 1 or HDMI 1 Lane 1", B49 HDMI_DP1_TX1_P (out) "Display: DisplayPort 1 Lane 1 or HDMI 1 Lane 1", B51 HDMI_DP2_TX1_P (out) "Display: DisplayPort 2 Lane 1 or HDMI 2 Lane 1", B52 HDMI_DP2_TX1_N (out) "Display: DisplayPort 2 Lane 1 or HDMI 2 Lane 1", C50 HDMI_DP2_TX3_N (out) "Display: DisplayPort 2 Lane 3 or HDMI 2 Clock Lane", C51 HDMI_DP2_TX3_P (out) "Display: DisplayPort 2 Lane 3 or HDMI 2 Clock Lane", D48 HDMI_DP1_TX2_N (out) "Display: DisplayPort 1 Lane 2 or HDMI 1 Lane 0", D49 HDMI_DP1_TX2_P (out) "Display: DisplayPort 1 Lane 2 or HDMI 1 Lane 0", D51 HDMI_DP2_TX0_P (out) "Display: DisplayPort 2 Lane 0 or HDMI 2 Lane 2", D52 HDMI_DP2_TX0_N (out) "Display: DisplayPort 2 Lane 0 or HDMI 2 Lane 2", E50 HDMI_DP1_TX3_P (out) "Display: DisplayPort 1 Lane 3 or HDMI 1 Clock Lane", E51 HDMI_DP1_TX3_N (out) "Display: DisplayPort 1 Lane 3 or HDMI 1 Clock Lane", F51 DP0_AUX_CH_N (io) "Display: DisplayPort 0 Lane AUX or HDMI 0 DDC SDA", F52 DP0_AUX_CH_P (io) "Display: DisplayPort 0 Lane AUX or HDMI 0 DDC SCL", G50 HDMI_DP0_TX1_N (out) "Display: DisplayPort 0 Lane 1 or HDMI 0 Lane 1", G51 HDMI_DP0_TX1_P (out) "Display: DisplayPort 0 Lane 1 or HDMI 0 Lane 1", G53 DP2_AUX_CH_P (io) "Display: DisplayPort 2 Lane AUX or HDMI 2 DDC SCL", G54 DP2_AUX_CH_N (io) "Display: DisplayPort 2 Lane AUX or HDMI 2 DDC SDA", H48 HDMI_DP0_TX0_N (out) "Display: DisplayPort 0 Lane 0 or HDMI 0 Lane 2", H49 HDMI_DP0_TX0_P (out) "Display: DisplayPort 0 Lane 0 or HDMI 0 Lane 2", J47 HDMI_DP0_TX2_P (out) "Display: DisplayPort 0 Lane 2 or HDMI 0 Lane 0", J48 HDMI_DP0_TX2_N (out) "Display: DisplayPort 0 Lane 2 or HDMI 0 Lane 0", J50 HDMI_CEC (io) "Display: HDMI CEC", J52 DP1_AUX_CH_P (io) "Display: DisplayPort 1 Lane AUX or HDMI 1 DDC SCL", J53 DP1_AUX_CH_N (io) "Display: DisplayPort 1 Lane AUX or HDMI 1 DDC SDA", K46 HDMI_DP0_TX3_P (out) "Display: DisplayPort 0 Lane 3 or HDMI 0 Clock Lane", K47 HDMI_DP0_TX3_N (out) "Display: DisplayPort 0 Lane 3 or HDMI 0 Clock Lane", K50 DP2_HPD (in) "Display: DisplayPort 2 or HDMI 2 Hot Plug Detect", K51 DP1_HPD (in) "Display: DisplayPort 1 or HDMI 1 Hot Plug Detect", K52 DP0_HPD (in) "Display: DisplayPort 0 or HDMI 0 Hot Plug Detect"
part F pins: A10 USB2_P (io) "USB: Port 2 Data", A11 USB2_N (io) "USB: Port 2 Data", B5 RGMII_TXC (out) "RGMII: Transmit Clock", C4 RGMII_RD0 (in) "RGMII: Receive Data Bit 0", C5 RGMII_RXC (in) "RGMII: Receive Clock", C10 USB1_N (io) "USB: Port 1 Data", C11 USB1_P (io) "USB: Port 1 Data", D5 RGMII_RX_CTL (in) "RGMII: Receive Control", E5 RGMII_RD3 (in) "RGMII: Receive Data Bit 3", E6 RGMII_SMA_MDC (out) "RGMII: Management Clock", E7 RGMII_SMA_MDIO (io) "RGMII: Management Data", F12 USB0_P (io) "USB: Port 0 Data", F13 USB0_N (io) "USB: Port 0 Data", G5 RGMII_TD1 (out) "RGMII: Transmit Data Bit 1", G6 RGMII_TD3 (out) "RGMII: Transmit Data Bit 3", G10 USB3_N (io) "USB: Port 3 Data", G11 USB3_P (io) "USB: Port 3 Data", H5 ENET_RST_N (out) "RGMII: Reset", H6 RGMII_RD2 (in) "RGMII: Receieve Data Bit 2", J5 ENET_INT (in) "RGMII: Interrupt", J6 RGMII_TD0 (out) "RGMII: Transmit Data Bit 0", J7 RGMII_TD2 (out) "RGMII: Transmit Data Bit 2", K6 RGMII_RD1 (in) "RGMII: Receive Data Bit 1", K7 RGMII_TX_CTL (out) "RGMII: Transmit Control"
part G pins: A41 CSI2_D0_P (in) "CSI: CSI 2 Data 0", A42 CSI2_D0_N (in) "CSI: CSI 2 Data 0", A44 CSI7_D0_P (in) "CSI: CSI 7 Data 0", A45 CSI7_D0_N (in) "CSI: CSI 7 Data 0", B42 CSI2_CLK_N (in) "CSI: CSI 2 Clock", B43 CSI2_CLK_P (in) "CSI: CSI 2 Clock", B45 CSI7_CLK_P (in) "CSI: CSI 7 Clock", B46 CSI7_CLK_N (in) "CSI: CSI 7 Clock", C41 CSI2_D1_N (in) "CSI: CSI 2 Data 1", C42 CSI2_D1_P (in) "CSI: CSI 2 Data 1", C44 CSI5_CLK_P (in) "CSI: CSI 5 Clock", C45 CSI5_CLK_N (in) "CSI: CSI 5 Clock", C47 CSI7_D1_P (in) "CSI: CSI 7 Data 1", C48 CSI7_D1_N (in) "CSI: CSI 7 Data 1", D42 CSI5_D0_P (in) "CSI: CSI 5 Data 0", D43 CSI5_D0_N (in) "CSI: CSI 5 Data 0", D45 CSI5_D1_N (in) "CSI: CSI 5 Data 1", D46 CSI5_D1_P (in) "CSI: CSI 5 Data 1", E38 CSI0_D1_N (in) "CSI: CSI 0 Data 1", E39 CSI0_D1_P (in) "CSI: CSI 0 Data 1", E41 CSI0_D0_N (in) "CSI: CSI 0 Data 0", E42 CSI0_D0_P (in) "CSI: CSI 0 Data 0", E44 CSI3_D0_N (in) "CSI: CSI 3 Data 0", E45 CSI3_D0_P (in) "CSI: CSI 3 Data 0", E47 CSI4_D1_P (in) "CSI: CSI 4 Data 1", E48 CSI4_D1_N (in) "CSI: CSI 4 Data 1", F42 CSI0_CLK_N (in) "CSI: CSI 0 Clock", F43 CSI0_CLK_P (in) "CSI: CSI 0 Clock", F45 CSI3_CLK_N (in) "CSI: CSI 3 Clock", F46 CSI3_CLK_P (in) "CSI: CSI 3 Clock", F48 CSI4_CLK_P (in) "CSI: CSI 4 Clock", F49 CSI4_CLK_N (in) "CSI: CSI 4 Clock", G41 CSI1_D0_P (in) "CSI: CSI 1 Data 0", G42 CSI1_D0_N (in) "CSI: CSI 1 Data 0", G44 CSI3_D1_P (in) "CSI: CSI 3 Data 1", G45 CSI3_D1_N (in) "CSI: CSI 3 Data 1", G47 CSI4_D0_N (in) "CSI: CSI 4 Data 0", G48 CSI4_D0_P (in) "CSI: CSI 4 Data 0", H42 CSI1_CLK_N (in) "CSI: CSI 1 Clock", H43 CSI1_CLK_P (in) "CSI: CSI 1 Clock", H45 CSI6_D1_N (in) "CSI: CSI 6 Data 1", H46 CSI6_D1_P (in) "CSI: CSI 6 Data 1", J41 CSI1_D1_P (in) "CSI: CSI 1 Data 1", J42 CSI1_D1_N (in) "CSI: CSI 1 Data 1", J44 CSI6_CLK_P (in) "CSI: CSI 6 Clock", J45 CSI6_CLK_N (in) "CSI: CSI 6 Clock", K43 CSI6_D0_N (in) "CSI: CSI 6 Data 0", K44 CSI6_D0_P (in) "CSI: CSI 6 Data 0"
part H pins: A53 I2C5_CLK (DO NOT USE) (out) "I2C: Clock 5", C7 I2S1_DOUT (out) "I2S: Audio Port 1 Data Out", C53 I2C5_DAT (DO NOT USE) (io) "I2C: Data 5", C59 I2S3_CLK (io) "I2S: Audio Port 3 Clock", C60 I2S3_FS (in) "I2S: Audio Port 3 Left/Right Clock", D8 I2S1_FS (in) "I2S: Audio Port 1 Left/Right Clock", D61 I2C4_CLK (out) "I2C: Clock 4", E4 I2S2_FS (in) "I2S: Audio Port 2 Left/Right Clock", E53 I2C3_DAT (io) "I2C: Data 3", E60 I2C4_DAT (io) "I2C: Data 4", F5 I2S2_DOUT (out) "I2S: Audio Port 2 Data Out", F6 I2S2_DIN (in) "I2S: Audio Port 2 Data In", F53 I2C3_CLK (out) "I2C: Clock 3", G4 I2S2_CLK (io) "I2S: Audio Port 2 Clock", H8 I2S1_DIN (in) "I2S: Audio Port 1 Data In", H9 MCLK01 (out) "I2S: Audio Codec Master Clock 1", H53 MCLK03 (out) "I2S: Audio Codec Master Clock 3", H55 MCLK04 (out) "I2S: Audio Codec Master Clock 4", J54 MCLK02 (out) "I2S: Audio Codec Master Clock 2", J59 I2S3_DIN (in) "I2S: Audio Port 3 Data In", J61 I2C2_CLK (out) "I2C: Clock 2", K5 I2C1_CLK (out) "I2C: Clock 1", K59 I2S3_DOUT (out) "I2S: Audio Port 3 Data Out", K61 I2C2_DAT (io) "I2C: Data 2", L8 I2C1_DAT (io) "I2C: Data 1", L14 I2S1_CLK (io) "I2S: Audio Port 1 Clock", L57 MCLK05 (out) "I2S: Audio Codec Master Clock 5"
part I pins: A4 SDCARD_D2 (io) "SD Card: SDIO Data 2", A5 SDCARD_CMD (io) "SD Card: SDIO Command", A6 UFS0_REF_CLK (out) "UFS: Reference Clock", A56 SPI1_MISO (io) "SPI: SPI 1 Master In / Slave Out", B6 SDCARD_CLK (out) "SD Card: Transmit Clock", B56 SPI1_CS1_N (io) "SPI: SPI 1 Chip Select 1", C6 UFS0_RST_N (out) "UFS: Reset", C57 SPI3_CS0_N (out) "SPI: SPI 3 Chip Select 0", D6 SDCARD_D3 (io) "SD Card: SDIO Data 3", D55 SPI1_MOSI (io) "SPI: SPI 1 Master Out / Slave In", D56 SPI3_MISO (io) "SPI: SPI 3 Master In / Slave Out", D60 SPI2_CS0_N (out) "SPI: SPI 2 Chip Select 0", D62 SPI2_MISO (io) "SPI: SPI 2 Master In / Slave Out", E8 SDCARD_D0 (io) "SD Card: SDIO Data 0", E55 SPI1_CS0_N (out) "SPI: SPI 1 Chip Select 0", E56 SPI3_CS1_N (out) "SPI: SPI 3 Chip Select 1", E61 SPI2_CLK (out) "SPI: SPI 2 Clock", F8 SDCARD_D1 (io) "SD Card: SDIO Data 1", F55 SPI3_CLK (out) "SPI: SPI 3 Clock", F60 SPI2_MOSI (io) "SPI: SPI 2 Master Out / Slave In", G56 SPI3_MOSI (io) "SPI: SPI 3 Master Out / Slave In", J57 SPI1_CLK (out) "SPI: SPI 1 Clock"
part J pins: A57 UART2_CTS (in) "UART: UART 2 Clear to Send", B61 CAN1_DIN (in) "CAN: CAN 1 Receive", C56 UART2_RX (in) "UART: UART 2 Receive", C58 UART2_TX (out) "UART: UART 2 Transmit", D59 CAN0_DOUT (out) "CAN: CAN 0 Transmit", F58 CAN0_DIN (in) "CAN: CAN 0 Receive", G58 UART2_RTS (out) "UART: UART 2 Request to Send", H54 UART1_CTS (in) "UART: UART 1 Clear to Send", H57 UART5_CTS (in) "UART: UART 5 Clear to Send", H58 UART5_RX (in) "UART: UART 5 Receive", H61 CAN1_DOUT (out) "CAN: CAN 1 Transmit", H62 UART3_TX_DEBUG (out) "UART: Debug UART Transmit", J58 UART5_TX (out) "UART: UART 5 Transmit", K53 UART1_TX (out) "UART: UART 1 Transmit", K54 UART1_RX (in) "UART: UART 1 Receive", K58 UART5_RTS (out) "UART: UART 5 Request to Send", K60 UART3_RX_DEBUG (in) "UART: Debug UART Receive", L4 UART4_RTS (RSVD) (out) "UART: UART 4 Request to Send", L5 UART4_TX (RSVD) (out) "UART: UART 4 Transmit", L48 UART4_RX (RSVD) (in) "UART: UART 4 Receive", L49 UART4_CTS (RSVD) (out) "UART: UART 4 Clear to Send", L51 UART1_RTS (out) "UART: UART 1 Request to Send"
part K pins: A7 GPIO29 (io) "GPIO: GPIO29", A54 GPIO17 (io) "GPIO: GPIO17", A55 GPIO34 (io) "GPIO: GPIO34", A58 GPIO20 (io) "GPIO: GPIO20", A59 GPIO05 (io) "GPIO: GPIO05", A62 GPIO10 (io) "GPIO: GPIO10", B8 GPIO11 (io) "GPIO: GPIO11", B55 GPIO30 (io) "GPIO: GPIO30", B58 GPIO21 (io) "GPIO: GPIO21", B59 GPIO04 (io) "GPIO: GPIO04", B62 GPIO08 (io) "GPIO: GPIO08", C54 GPIO33 (io) "GPIO: GPIO33", C55 GPIO18 (io) "GPIO: GPIO18", C61 GPIO09 (io) "GPIO: GPIO09", D54 GPIO03 (io) "GPIO: GPIO03", E10 GPIO12 (io) "GPIO: GPIO12", E59 GPIO06 (io) "GPIO: GPIO06", F9 GPIO16 (io) "GPIO: GPIO16", F10 GPIO15 (io) "GPIO: GPIO15", F54 GPIO22 (io) "GPIO: GPIO22", F56 GPIO36 (io) "GPIO: GPIO36", F59 GPIO07 (io) "GPIO: GPIO07", G7 GPIO13 (io) "GPIO: GPIO13", G55 GPIO23 (io) "GPIO: GPIO23", H51 GPIO26 (io) "GPIO: GPIO26", H52 GPIO27 (PWM02) (io) "GPIO: GPIO27", H60 GPIO31 (io) "GPIO: GPIO31", J4 GPIO01 (io) "GPIO: GPIO01", J51 GPIO24 (io) "GPIO: GPIO24", J55 GPIO32 (io) "GPIO: GPIO32", K49 GPIO25 (io) "GPIO: GPIO25", K56 GPIO19 (io) "GPIO: GPIO19", K57 PWM01 (io) "GPIO: PWM01", L6 GPIO02 (io) "GPIO: GPIO02", L9 GPIO28 (io) "GPIO: GPIO28", L15 GPIO14 (io) "GPIO: GPIO14", L50 GPIO35 (PWM03) (io) "GPIO: GPIO35"
part L pins: A3 PRSNT0 (in) "SYS: Module Present #0. Connected to PRSNT1 on the NVIDIA Xavier Module", A60 JTAG_TCK (in) "JTAG: Test Clock", A61 SYSTEM_OC_N (in) "SYS: Battery Over-Current & Thermal Warning", B10 SATA_DEV_SLP "SATA: Device Sleep", B40 MID4 (power) "SYS: Module ID #4", B54 WDT_RESET_OUT_N (out) "SYS: Watchdog Timeout", B60 JTAG_TDI (in) "JTAG: Test Data In", D40 MID3 (power) "SYS: Module ID #3", D58 JTAG_TDO (out) "JTAG: Test Data Out", E54 FAN_TACH (in) "FAN: Fan Tachometer Signal", E58 JTAG_TMS (in) "JTAG: Test Mode Select", F40 MID2 (power) "SYS: Module ID #2", F61 VCOMP_ALERT_N (in) "SYS: TBD", G59 NC_03 (RSVD) "SYS: No Connect", G60 NVDBG_SEL (in) "SYS: NVIDIA Debug Select", G61 JTAG_TRST_N (in) "JTAG: Test Reset", H40 MID1 (power) "SYS: Module ID #1", H59 NVJTAG_SEL (in) "SYS: NVIDIA JTAG Select", J60 STANDBY_ACK_N (out) "SYS: Standby Acknowledge", K40 MID0 (power) "SYS: Module ID #0", K62 FAN_PWM (out) "FAN: Fan Pulse Width Modulation Signal", L10 FORCE_RECOVERY_N (in) "SYS: Force Recovery", L11 STANDBY_REQ_N (in) "SYS: Standby Request", L18 NC_01 (RSVD) "SYS: No Connect", L19 NC_02 (RSVD) "SYS: No Connect", L41 VM_EN1_N (RSVD) "RSVD", L42 VM_EN0_N (RSVD) "RSVD", L44 VM_I2C_SCK (RSVD) "VM_I2C: Clock", L45 VM_I2C_DAT (RSVD) "VM_I2C: Data", L47 VM_INT_N (RSVD) "RSVD", L52 OVERTEMP_N (out) "SYS: Force Power Off Request", L54 MODULE_POWER_ON (in) "SYS: Module Power On", L55 VDDIN_PWR_BAD_N (in) "SYS: VDD_IN Power Bad", L56 TEMP_ALERT_N (out) "SYS: Alert from Temp Sensor on Module", L58 PERIPHERAL_RESET_N (in) "SYS: Peripheral Reset", L59 SAFETY_PROCESSOR_GPIO (RSVD) (io) "RSVD", L60 SYS_RESET_N (out) "SYS: System Reset", L61 POWER_BTN_N (in) "SYS: Power Button", L62 CARRIER_POWER_ON (out) "SYS: Carrier Power On", L63 PRSNT1 (out) "SYS: Module Present #1. Connected to PRSNT0 on the NVIDIA Xavier Module"
part M pins: B3 SYS_VIN_HV (power) "Power: System Voltage Input - High (+9V to +20V)", B63 SYS_VIN_HV (power) "Power: System Voltage Input - High (+9V to +20V)", C1 SYS_VIN_HV (power) "Power: System Voltage Input - High (+9V to +20V)", C2 SYS_VIN_HV (power) "Power: System Voltage Input - High (+9V to +20V)", C63 SYS_VIN_HV (power) "Power: System Voltage Input - High (+9V to +20V)", C64 SYS_VIN_HV (power) "Power: System Voltage Input - High (+9V to +20V)", C65 SYS_VIN_HV (power) "Power: System Voltage Input - High (+9V to +20V)", D1 SYS_VIN_HV (power) "Power: System Voltage Input - High (+9V to +20V)", D2 SYS_VIN_HV (power) "Power: System Voltage Input - High (+9V to +20V)", D3 SYS_VIN_HV (power) "Power: System Voltage Input - High (+9V to +20V)", D64 SYS_VIN_HV (power) "Power: System Voltage Input - High (+9V to +20V)", D65 SYS_VIN_HV (power) "Power: System Voltage Input - High (+9V to +20V)", E1 SYS_VIN_HV (power) "Power: System Voltage Input - High (+9V to +20V)", E2 SYS_VIN_HV (power) "Power: System Voltage Input - High (+9V to +20V)", E63 SYS_VIN_HV (power) "Power: System Voltage Input - High (+9V to +20V)", E64 SYS_VIN_HV (power) "Power: System Voltage Input - High (+9V to +20V)", E65 SYS_VIN_HV (power) "Power: System Voltage Input - High (+9V to +20V)", F1 SYS_VIN_HV (power) "Power: System Voltage Input - High (+9V to +20V)", F2 SYS_VIN_HV (power) "Power: System Voltage Input - High (+9V to +20V)", F3 SYS_VIN_HV (power) "Power: System Voltage Input - High (+9V to +20V)", F63 SYS_VIN_HV (power) "Power: System Voltage Input - High (+9V to +20V)", F64 SYS_VIN_HV (power) "Power: System Voltage Input - High (+9V to +20V)", F65 SYS_VIN_HV (power) "Power: System Voltage Input - High (+9V to +20V)", G1 SYS_VIN_HV (power) "Power: System Voltage Input - High (+9V to +20V)", G2 SYS_VIN_HV (power) "Power: System Voltage Input - High (+9V to +20V)", G63 SYS_VIN_HV (power) "Power: System Voltage Input - High (+9V to +20V)", G64 SYS_VIN_HV (power) "Power: System Voltage Input - High (+9V to +20V)", G65 SYS_VIN_HV (power) "Power: System Voltage Input - High (+9V to +20V)", H1 SYS_VIN_HV (power) "Power: System Voltage Input - High (+9V to +20V)", H2 SYS_VIN_HV (power) "Power: System Voltage Input - High (+9V to +20V)", H3 SYS_VIN_HV (power) "Power: System Voltage Input - High (+9V to +20V)", H64 SYS_VIN_HV (power) "Power: System Voltage Input - High (+9V to +20V)", H65 SYS_VIN_HV (power) "Power: System Voltage Input - High (+9V to +20V)", J1 SYS_VIN_HV (power) "Power: System Voltage Input - High (+9V to +20V)", J2 SYS_VIN_HV (power) "Power: System Voltage Input - High (+9V to +20V)", J63 SYS_VIN_HV (power) "Power: System Voltage Input - High (+9V to +20V)", J64 SYS_VIN_HV (power) "Power: System Voltage Input - High (+9V to +20V)", J65 SYS_VIN_HV (power) "Power: System Voltage Input - High (+9V to +20V)", K3 SYS_VIN_HV (power) "Power: System Voltage Input - High (+9V to +20V)", L22 SYS_VIN_MV_10 (power) "Power: System Voltage Input - Medium (+5V)", L23 SYS_VIN_MV_9 (power) "Power: System Voltage Input - Medium (+5V)", L26 SYS_VIN_MV_8 (power) "Power: System Voltage Input - Medium (+5V)", L27 SYS_VIN_MV_7 (power) "Power: System Voltage Input - Medium (+5V)", L30 SYS_VIN_MV_6 (power) "Power: System Voltage Input - Medium (+5V)", L31 SYS_VIN_MV_5 (power) "Power: System Voltage Input - Medium (+5V)", L34 SYS_VIN_MV_4 (power) "Power: System Voltage Input - Medium (+5V)", L35 SYS_VIN_MV_3 (power) "Power: System Voltage Input - Medium (+5V)", L38 SYS_VIN_MV_2 (power) "Power: System Voltage Input - Medium (+5V)", L39 SYS_VIN_MV_1 (power) "Power: System Voltage Input - Medium (+5V)", L53 VCC_RTC (power) "Power: Real-Time-Clock (+1.65V to +5.5V)"
part N pins: A9 GND (power) "Power: GND", A12 GND (power) "Power: GND", A13 GND (power) "Power: GND", A16 GND (power) "Power: GND", A17 GND (power) "Power: GND", A20 GND (power) "Power: GND", A21 GND (power) "Power: GND", A24 GND (power) "Power: GND", A25 GND (power) "Power: GND", A28 GND (power) "Power: GND", A29 GND (power) "Power: GND", A32 GND (power) "Power: GND", A33 GND (power) "Power: GND", A36 GND (power) "Power: GND", A37 GND (power) "Power: GND", A40 GND (power) "Power: GND", A43 GND (power) "Power: GND", A46 GND (power) "Power: GND", A49 GND (power) "Power: GND", A52 GND (power) "Power: GND", A63 GND (power) "Power: GND", B4 GND (power) "Power: GND", B7 GND (power) "Power: GND", B11 GND (power) "Power: GND", B14 GND (power) "Power: GND", B15 GND (power) "Power: GND", B18 GND (power) "Power: GND", B19 GND (power) "Power: GND", B22 GND (power) "Power: GND", B23 GND (power) "Power: GND", B26 GND (power) "Power: GND", B27 GND (power) "Power: GND", B30 GND (power) "Power: GND", B31 GND (power) "Power: GND", B34 GND (power) "Power: GND", B35 GND (power) "Power: GND", B38 GND (power) "Power: GND", B39 GND (power) "Power: GND", B41 GND (power) "Power: GND", B44 GND (power) "Power: GND", B47 GND (power) "Power: GND", B50 GND (power) "Power: GND", B53 GND (power) "Power: GND", B57 GND (power) "Power: GND", C3 GND (power) "Power: GND", C9 GND (power) "Power: GND", C12 GND (power) "Power: GND", C13 GND (power) "Power: GND", C16 GND (power) "Power: GND", C17 GND (power) "Power: GND", C20 GND (power) "Power: GND", C21 GND (power) "Power: GND", C24 GND (power) "Power: GND", C25 GND (power) "Power: GND", C28 GND (power) "Power: GND", C29 GND (power) "Power: GND", C32 GND (power) "Power: GND", C33 GND (power) "Power: GND", C36 GND (power) "Power: GND", C37 GND (power) "Power: GND", C40 GND (power) "Power: GND", C43 GND (power) "Power: GND", C46 GND (power) "Power: GND", C49 GND (power) "Power: GND", C52 GND (power) "Power: GND", C62 GND (power) "Power: GND", D4 GND (power) "Power: GND", D7 GND (power) "Power: GND", D11 GND (power) "Power: GND", D14 GND (power) "Power: GND", D15 GND (power) "Power: GND", D18 GND (power) "Power: GND", D19 GND (power) "Power: GND", D22 GND (power) "Power: GND", D23 GND (power) "Power: GND", D26 GND (power) "Power: GND", D27 GND (power) "Power: GND", D30 GND (power) "Power: GND", D31 GND (power) "Power: GND", D34 GND (power) "Power: GND", D35 GND (power) "Power: GND", D38 GND (power) "Power: GND", D39 GND (power) "Power: GND", D41 GND (power) "Power: GND", D44 GND (power) "Power: GND", D47 GND (power) "Power: GND", D50 GND (power) "Power: GND", D53 GND (power) "Power: GND", D57 GND (power) "Power: GND", D63 GND (power) "Power: GND", E3 GND (power) "Power: GND", E9 GND (power) "Power: GND", E12 GND (power) "Power: GND", E13 GND (power) "Power: GND", E16 GND (power) "Power: GND", E17 GND (power) "Power: GND", E20 GND (power) "Power: GND", E21 GND (power) "Power: GND", E24 GND (power) "Power: GND", E25 GND (power) "Power: GND", E28 GND (power) "Power: GND", E29 GND (power) "Power: GND", E32 GND (power) "Power: GND", E33 GND (power) "Power: GND", E36 GND (power) "Power: GND", E37 GND (power) "Power: GND", E40 GND (power) "Power: GND", E43 GND (power) "Power: GND", E46 GND (power) "Power: GND", E49 GND (power) "Power: GND", E52 GND (power) "Power: GND", E57 GND (power) "Power: GND", E62 GND (power) "Power: GND", F4 GND (power) "Power: GND", F7 GND (power) "Power: GND", F11 GND (power) "Power: GND", F14 GND (power) "Power: GND", F15 GND (power) "Power: GND", F18 GND (power) "Power: GND", F19 GND (power) "Power: GND", F22 GND (power) "Power: GND", F23 GND (power) "Power: GND", F26 GND (power) "Power: GND"
part O pins: F27 GND (power) "Power: GND", F30 GND (power) "Power: GND", F31 GND (power) "Power: GND", F34 GND (power) "Power: GND", F35 GND (power) "Power: GND", F38 GND (power) "Power: GND", F39 GND (power) "Power: GND", F41 GND (power) "Power: GND", F44 GND (power) "Power: GND", F47 GND (power) "Power: GND", F50 GND (power) "Power: GND", F57 GND (power) "Power: GND", F62 GND (power) "Power: GND", G3 GND (power) "Power: GND", G9 GND (power) "Power: GND", G12 GND (power) "Power: GND", G13 GND (power) "Power: GND", G16 GND (power) "Power: GND", G17 GND (power) "Power: GND", G20 GND (power) "Power: GND", G21 GND (power) "Power: GND", G24 GND (power) "Power: GND", G25 GND (power) "Power: GND", G28 GND (power) "Power: GND", G29 GND (power) "Power: GND", G32 GND (power) "Power: GND", G33 GND (power) "Power: GND", G36 GND (power) "Power: GND", G37 GND (power) "Power: GND", G40 GND (power) "Power: GND", G43 GND (power) "Power: GND", G46 GND (power) "Power: GND", G49 GND (power) "Power: GND", G52 GND (power) "Power: GND", G57 GND (power) "Power: GND", G62 GND (power) "Power: GND", H4 GND (power) "Power: GND", H7 GND (power) "Power: GND", H11 GND (power) "Power: GND", H14 GND (power) "Power: GND", H15 GND (power) "Power: GND", H18 GND (power) "Power: GND", H19 GND (power) "Power: GND", H22 GND (power) "Power: GND", H23 GND (power) "Power: GND", H26 GND (power) "Power: GND", H27 GND (power) "Power: GND", H30 GND (power) "Power: GND", H31 GND (power) "Power: GND", H34 GND (power) "Power: GND", H35 GND (power) "Power: GND", H38 GND (power) "Power: GND", H39 GND (power) "Power: GND", H41 GND (power) "Power: GND", H44 GND (power) "Power: GND", H47 GND (power) "Power: GND", H50 GND (power) "Power: GND", H56 GND (power) "Power: GND", H63 GND (power) "Power: GND", J3 GND (power) "Power: GND", J8 GND (power) "Power: GND", J12 GND (power) "Power: GND", J13 GND (power) "Power: GND", J16 GND (power) "Power: GND", J17 GND (power) "Power: GND", J20 GND (power) "Power: GND", J21 GND (power) "Power: GND", J24 GND (power) "Power: GND", J25 GND (power) "Power: GND", J28 GND (power) "Power: GND", J29 GND (power) "Power: GND", J32 GND (power) "Power: GND", J33 GND (power) "Power: GND", J36 GND (power) "Power: GND", J37 GND (power) "Power: GND", J40 GND (power) "Power: GND", J43 GND (power) "Power: GND", J46 GND (power) "Power: GND", J49 GND (power) "Power: GND", J56 GND (power) "Power: GND", J62 GND (power) "Power: GND", K4 GND (power) "Power: GND", K8 GND (power) "Power: GND", K11 GND (power) "Power: GND", K14 GND (power) "Power: GND", K15 GND (power) "Power: GND", K18 GND (power) "Power: GND", K19 GND (power) "Power: GND", K22 GND (power) "Power: GND", K23 GND (power) "Power: GND", K26 GND (power) "Power: GND", K27 GND (power) "Power: GND", K30 GND (power) "Power: GND", K31 GND (power) "Power: GND", K34 GND (power) "Power: GND", K35 GND (power) "Power: GND", K38 GND (power) "Power: GND", K39 GND (power) "Power: GND", K41 GND (power) "Power: GND", K42 GND (power) "Power: GND", K45 GND (power) "Power: GND", K48 GND (power) "Power: GND", K55 GND (power) "Power: GND", K63 GND (power) "Power: GND", L3 GND (power) "Power: GND", L7 GND (power) "Power: GND", L12 GND (power) "Power: GND", L13 GND (power) "Power: GND", L16 GND (power) "Power: GND", L17 GND (power) "Power: GND", L20 GND (power) "Power: GND", L21 GND (power) "Power: GND", L24 GND (power) "Power: GND", L25 GND (power) "Power: GND", L28 GND (power) "Power: GND", L29 GND (power) "Power: GND", L32 GND (power) "Power: GND", L33 GND (power) "Power: GND", L36 GND (power) "Power: GND", L37 GND (power) "Power: GND", L40 GND (power) "Power: GND", L43 GND (power) "Power: GND", L46 GND (power) "Power: GND"

## MOUNTING_HOLE_5/32
designator MH?  (no BOM)
MOUNTING_HOLE_5/32
footprint MOUNTING_HOLE_5/38 (Meant to use with Mcmaster-carr PN: 91443A250)

## MOUNTING_HOLE_M3
designator MH?  (no BOM)
MOUNTING_HOLE_M3
footprint MOUNTING_HOLE_3mm (3mm Hole)

## MOUNTING_HOLE_M3_GIMBAL_REV2
designator MH?  (no BOM)
MOUNTING_HOLE_M3 Gimbal Rev2
footprint MOUNTING_HOLE_3mm_GIMBAL_REV2 (3mm Hole)

## MOUNTING_HOLE_M3_SCIENCE_REV2
designator MH?  (no BOM)
MOUNTING_HOLE_M3 Science Rev2
footprint MOUNTING_HOLE_3mm_SCIENCE_REV2 (3mm Hole)

## NMOS DMG301NU-13
designator Q?  Manufacturer Part Number 1: DMG301NU-13
MOSFET N-CH 25V 260MA SOT23; Manufacturer 1: Diodes Incorporated; Package/Footprint: SOT-23; Id: 260mA (Ta); Vgs (Max): ±8V; Supplier 1: Digi-Key; Mounting Type: SMD; Supplier Part Number 1: DMG301NU-13DICT-ND; Vdss: 25V; Verified: No
footprint SOT23-3 (SOT23, 3-Leads, Body 2.90x2.30mm, Pitch 0.95mm, IPC Medium Density)
pins: 1 GATE, 2 SOURCE, 3 DRAIN

## NMOS_30V_0.25A
designator Q?  Manufacturer Part Number 1: NTJD4001NT1G
MOSFET 2N-CH 30V 0.25A SOT-363; Manufacturer 1: ON Semiconductor; Supplier 1: Digi-Key; Supplier Part Number 1: NTJD4001NT1GOSCT-ND; DS Breakdown Voltage-Min: 30V
pins: 1 GATE, 2 SOURCE, 3 DRAIN

## NMOS_30V_2.2A
designator Q?  Manufacturer Part Number 1: FDN337N
MOSFET N-CH 30V 2.2A SUPERSOT3; Manufacturer 1: ON Semiconductor / Fairchild; Vgs (Max): ±8V; Supplier 1: Digi-Key; Mounting Type: SMD; Package: SuperSOT-3; Supplier Part Number 1: FDN337NCT-ND; Id: 2.2A; Vdss: 30V; Verified: No
footprint NMOS_SSOT-3
pins: 1 GATE, 2 SOURCE, 3 DRAIN

## NMOS_30V_2.6A
designator Q?  Manufacturer Part Number 1: DMN3067LW
MOSFET N-CH 30V 2.6A SOT-323; Manufacturer 1: Diodes Incorporated; Vgs (Max): ±12V; Supplier 1: Digi-Key; Supplier Part Number 1: DMN3067LW-7DICT-ND; Package/Footprint: SOT-323; Vdss: 30V; Mounting Type: SMD; Id: 2.6A
footprint NMOS_SOT-323
pins: 1 GATE, 2 SOURCE, 3 DRAIN

## NMOS_30V_13A
designator Q?  Manufacturer Part Number 1: NTMFS4935NT1G
MOSFET N-CH 30V 13A SO8FL; Manufacturer 1: ON Semiconductor; Package/Footprint: 8-PowerTDFN; Vgs (Max): ±20V; Supplier 1: Digi-Key; Supplier Part Number 1: NTMFS4935NT1GOSCT-ND; Mounting Type: SMD; Verified: No; Id: 13A; Vdss: 30V
footprint SO8-FL
pins: 1 Source, 2 Gate, 3 Drain

## NMOS_30V_22A
designator Q?  Manufacturer Part Number 1: CSD17571Q2
MOSFET N-CH 30V 22A 6SON; Manufacturer 1: Texas Instruments; Supplier 1: Digi-Key; Supplier Part Number 1: 296-37193-1-ND
footprint TRANS_CSD19538Q2
pins: 1 D, 2 D, 3 G, 4 S, 5 D, 6 D, 7 S, 8 D

## NMOS_30V_60A
designator Q?  Manufacturer Part Number 1: CSD17577Q5AT
MOSFET N-CH 30V 60A 8VSON; Manufacturer 1: Texas Instruments; Supplier 1: Digi-Key; Supplier Part Number 1: 296-38337-1-ND
footprint MOSFET_CSD19531Q5A
pins: 1 Source, 2 Gate, 3 Drain

## NMOS_40V_75A
designator Q?  Manufacturer Part Number 1: BUK768R1-40E,118
MOSFET N-CH 40V 75A D2PAK; Manufacturer 1: Nexperia USA Inc.; Package: D2PAK; Supplier 1: Digi-Key; Supplier Part Number 1: 1727-7257-1-ND; Mounting Type: SMD; Verified: No
footprint SOT404
pins: 1 G "gate", 3 S "source", 4 D "mounting base; connected to drain"

## NMOS_40V_100A
designator Q?  Manufacturer Part Number 1: BSC007N04LS6ATMA1
MOSFET N-CH 40V 100A PG-TDSON-8-6; Manufacturer 1: Infineon Technologies; Package/Footprint: 8-PowerTDFN; Vgs (Max): ±20V; Supplier 1: Digi-Key; Supplier Part Number 1: BSC007N04LS6ATMA1CT-ND; Mounting Type: SMD; Verified: No; Id: 100A; Vdss: 40V
footprint TRANS_BSC007N04LS6ATMA1
pins: 1 S, 4 G, 8 D

## NMOS_50V_200mA
designator Q?  Manufacturer Part Number 1: RUC002N05HZGT116
MOSFET N-CH 50V 200mA 1.2V DRIVE SOT-23-3; Manufacturer 1: Rohm Semiconductor; Vgs (Max): ±8V; Supplier 1: Digi-Key; Supplier Part Number 1: RUC002N05HZGT116CT-ND; Vdss: 50V; Mounting Type: SMD; Package: SOT-23-3; Id: 200mA
footprint SOT23-3 (SOT23, 3-Leads, Body 2.90x2.30mm, Pitch 0.95mm, IPC Medium Density)
pins: 1 G "gate", 2 S "source", 3 D "mounting base; connected to drain"

## NMOS_60V_10.8A
designator Q?  Manufacturer Part Number 1: DMT6009LSS-13
MOSFET BVDSS: 41V 60V,SO-8,T&R,2; Manufacturer 1: Texas Instruments; Continuous Drain Current (Id) @ 25°C: 10.8A (Ta); Drive Voltage (Max Rds On, Min Rds On): 4.5V, 10V; Rds On (Max) @ Id, Vgs: 59mOhm @ 5A, 10V; Vgs(th) (Max) @ Id: 9.5mOhm @ 13.5A, 10V; Vgs (Max): ±20V; Power Dissipation (Max): 1.25W (Ta); Package/Footprint: 8-SOIC; Supplier 1: Digi-Key; Supplier Part Number 1: DMT6009LSS-13DICT-ND; Operating Temperature: -55°C - 150°C (TJ); Mounting Type: SMD; Drain to Source Voltage (Vdss): 60V; LCSC Part #: C508211
footprint TRANS_DMP2002UPS-13
pins: 1 D, 2 S, 3 G

## NMOS_60V_100A
designator Q?  Manufacturer Part Number 1: DMTH6004SK3-13
MOSFET N-CH 60V 100A DPAK; Manufacturer 1: Diodes Incorporated; FET Type: N-Channel; Vgs (Max): 20V; Power Dissipation (Max): 180W; Supplier 1: Digi-Key; Supplier Part Number 1: DMTH6004SK3-13DICT-ND; Vdss: 60V; Supplier Device Package: D-PAK (TO-252); Id: 100A
footprint D-PAK (TO-252AA)
pins: 1 Drain, 2 Gate, 3 Source

## NMOS_60V_310mA
designator Q?  Manufacturer Part Number 1: 2N7002BKW,115
MOSFET N-CH 60V 310mA SOT-323; Manufacturer 1: Nexperia; Supplier 1: Digi-Key; Supplier Part Number 1: 1727-4788-1-ND; Id: 310mA
footprint SOT323
pins: 1 G "gate", 2 S "source", 3 D "mounting base; connected to drain"

## NMOS_60V_360mA
designator Q?  Manufacturer Part Number 1: 2N7002P,215
MOSFET N-CH 60V 0.36A SOT-23; Manufacturer 1: Nexperia USA Inc.; Part Number: 2N7002P,215; Package: TO-236-3, SC-59, SOT-23-3; Supplier 1: Digi-Key; Supplier Part Number 1: 1727-4692-1-ND
footprint SOT23-3 (SOT23, 3-Leads, Body 2.90x2.30mm, Pitch 0.95mm, IPC Medium Density)
pins: 1 G "gate", 3 S "source", 4 D "mounting base; connected to drain"

## NMOS_60V_470mA
designator Q?  Manufacturer Part Number 1: DMN61D8LQ-7
MOSFET N-CH 60V 470mA SOT23; Manufacturer 1: Diodes; Rds On Max: 1.8R; Input Capacitance: 12.9pF; Max Power Dissipation: 390mW; Supplier 1: Digi-Key; Stock 1: 72; Drain to Source Voltage (Vdss): 60V; Continuous Drain Current (ID): 470mA; Supplier Part Number 1: DMN61D8LQ-7DICT-ND
footprint SOT23-3 (SOT23, 3-Leads, Body 2.90x2.30mm, Pitch 0.95mm, IPC Medium Density)
pins: 1 GATE, 2 SOURCE, 3 DRAIN

## NMOS_100V_10.3A
designator Q?  Manufacturer Part Number 1: SI4058DY-T1-GE3
MOSFET N-CH 100V 10.3A 8SOIC; Manufacturer 1: Vishay Siliconix; Vgs (Max): ±20V; Package/Footprint: 8-SOIC; Supplier 1: Digi-Key; Supplier Part Number 1: SI4058DY-T1-GE3CT-ND; Vdss: 100V; Id: 10.3A
footprint 8-SOIC_NMOS
pins: 1 Gate, 2 Source, 3 Drain

## NMOS_100V_50A
designator Q?  Manufacturer Part Number 1: DMT10H015LK3-13
MOSFET N-CH 100V 50A TO252; Manufacturer 1: Diodes Incorporated; Vgs (Max): ±20V; Package/Footprint: TO-252-3; Supplier 1: Digi-Key; Supplier Part Number 1: DMT10H015LK3-13DICT-ND; Vdss: 100V; Id: 50A
footprint D-PAK3
pins: 1 Gate, 2 Source, 3 Drain

## NMOS_100V_210A
designator Q?  Manufacturer Part Number 1: FDBL0240N100
MOSFET N-CH 100V 210A POWER56; Manufacturer 1: ON Semiconductor; FET Type: N-Channel; Vgs (Max): 20V; Power Dissipation (Max): 300W; Supplier 1: Digi-Key; Supplier Part Number 1: FDBL0240N100CT-ND; Vdss: 100V; Supplier Device Package: 8-HPSOF; Id: 210A
footprint 8-HPSOF
pins: 1 Gate, 2 Source, 3 Drain

## NPN_40V_100mA
designator Q?  Manufacturer Part Number 1: MMBT3904-TP
TRANS NPN 40V 0.2A SOT23; Manufacturer 1: Micro Commercial Co; Package: SOT-23-3; Supplier Part Number 1: MMBT3904TPMSCT-ND; Supplier 1: Digi-Key
footprint SOT23-3 (SOT23, 3-Leads, Body 2.90x2.30mm, Pitch 0.95mm, IPC Medium Density)
pins: 1 B, 2 E, 3 C

## NTC_THERM_100K
designator *  value 100K  Manufacturer Part Number 1: ERT-J1VV104J
THERM NTC 100KOHM 4700K 0603; Manufacturer 1: Panasonic; Supplier Part Number 1: P10555CT-ND; Supplier 1: Digi-Key
footprint RESC0603(1608)_N (Chip Resistor, Body 1.6x0.8mm, IPC Medium Density)
pins: 1, 2
text: -t°